# Altium schematic symbol library PROC114E3_SCH_Library.SchLib: 130 symbols
Pins are listed as number, name and electrical type; pins without a type are passive.

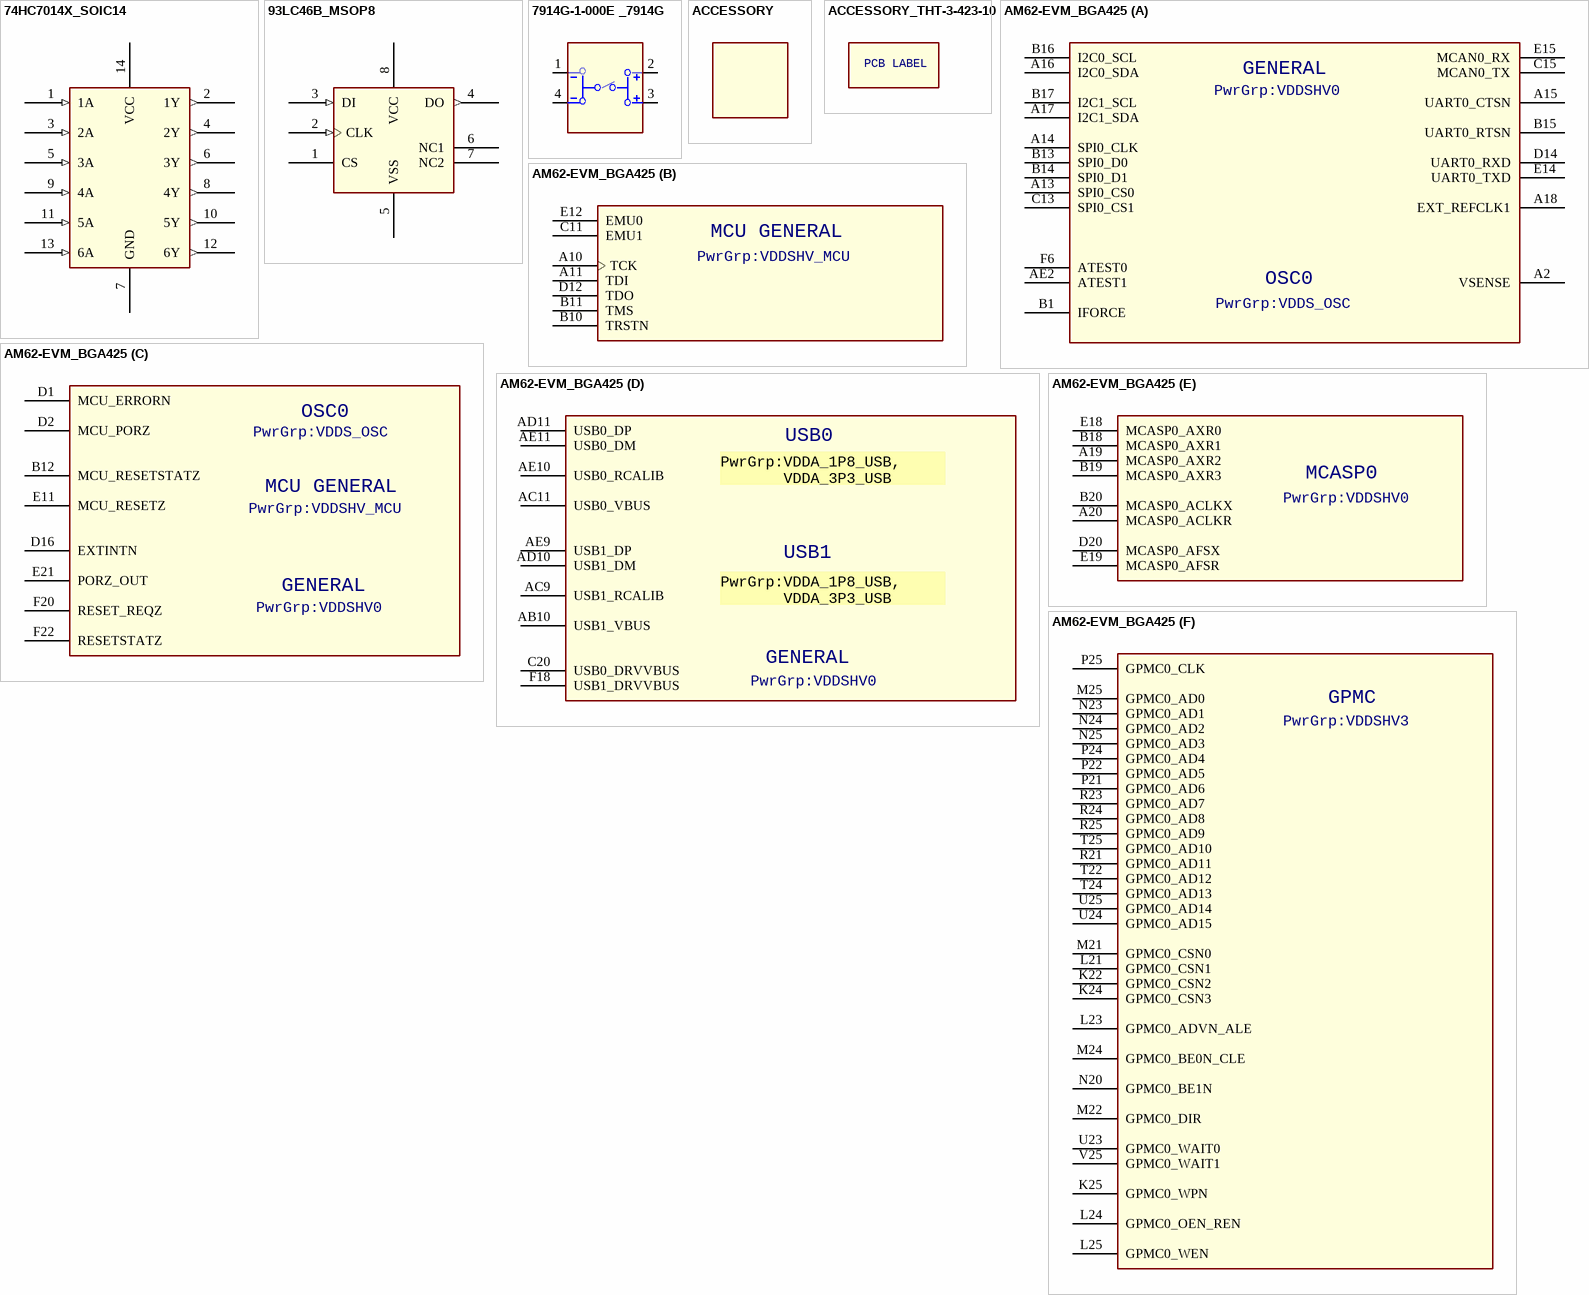
[diagram p0: symbols 74HC7014X_SOIC14 to AM62-EVM_BGA425]

## 74HC7014X_SOIC14
designator U?
pins: 1 1A (in), 2 1Y (out), 3 2A (in), 4 2Y (out), 5 3A (in), 6 3Y (out), 7 GND (power), 8 4Y (out), 9 4A (in), 10 5Y (out), 11 5A (in), 12 6Y (out), 13 6A (in), 14 VCC (power)

## 93LC46B_MSOP8
designator U?
pins: 1 CS, 2 CLK (in), 3 DI (in), 4 DO (out), 5 VSS (power), 6 NC1, 7 NC2, 8 VCC (power)

## 7914G-1-000E _7914G
designator SW?
pins: 1, 2, 3, 4

## ACCESSORY
designator ACC?

## ACCESSORY_THT-3-423-10
designator LBL?
text: PCB LABEL

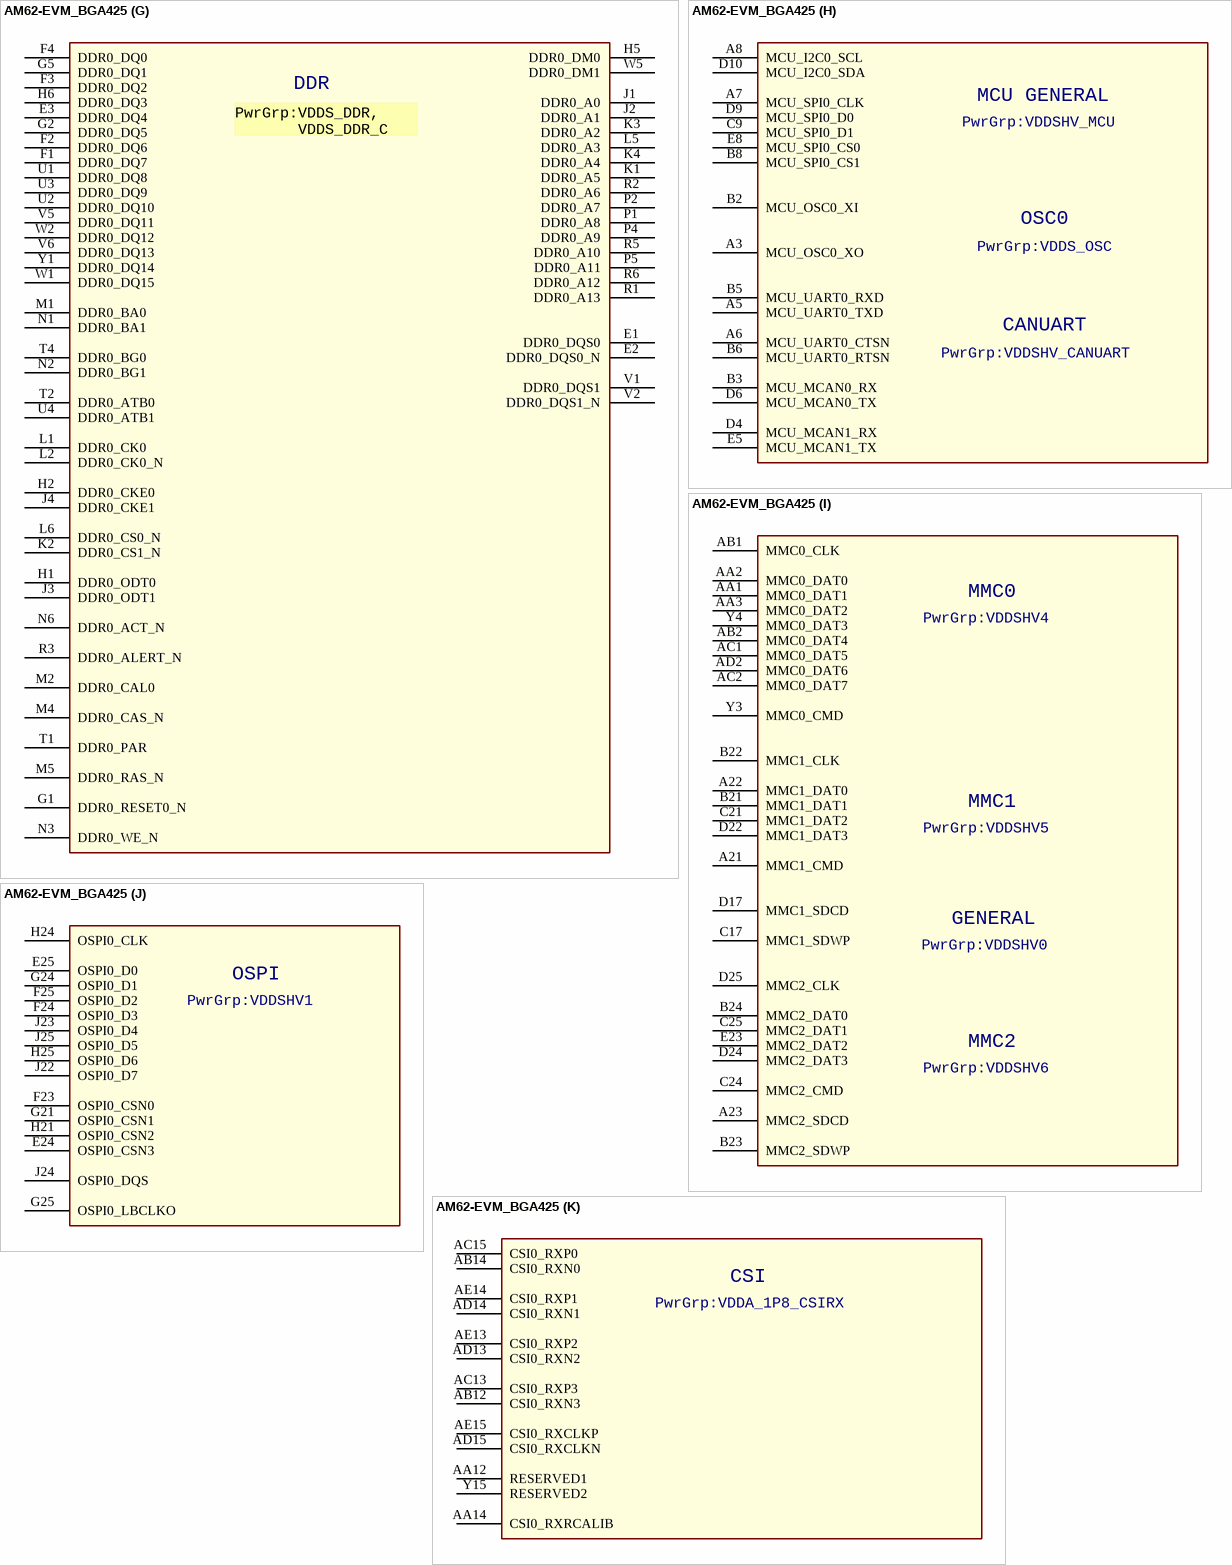
[diagram p1: symbol AM62-EVM_BGA425]

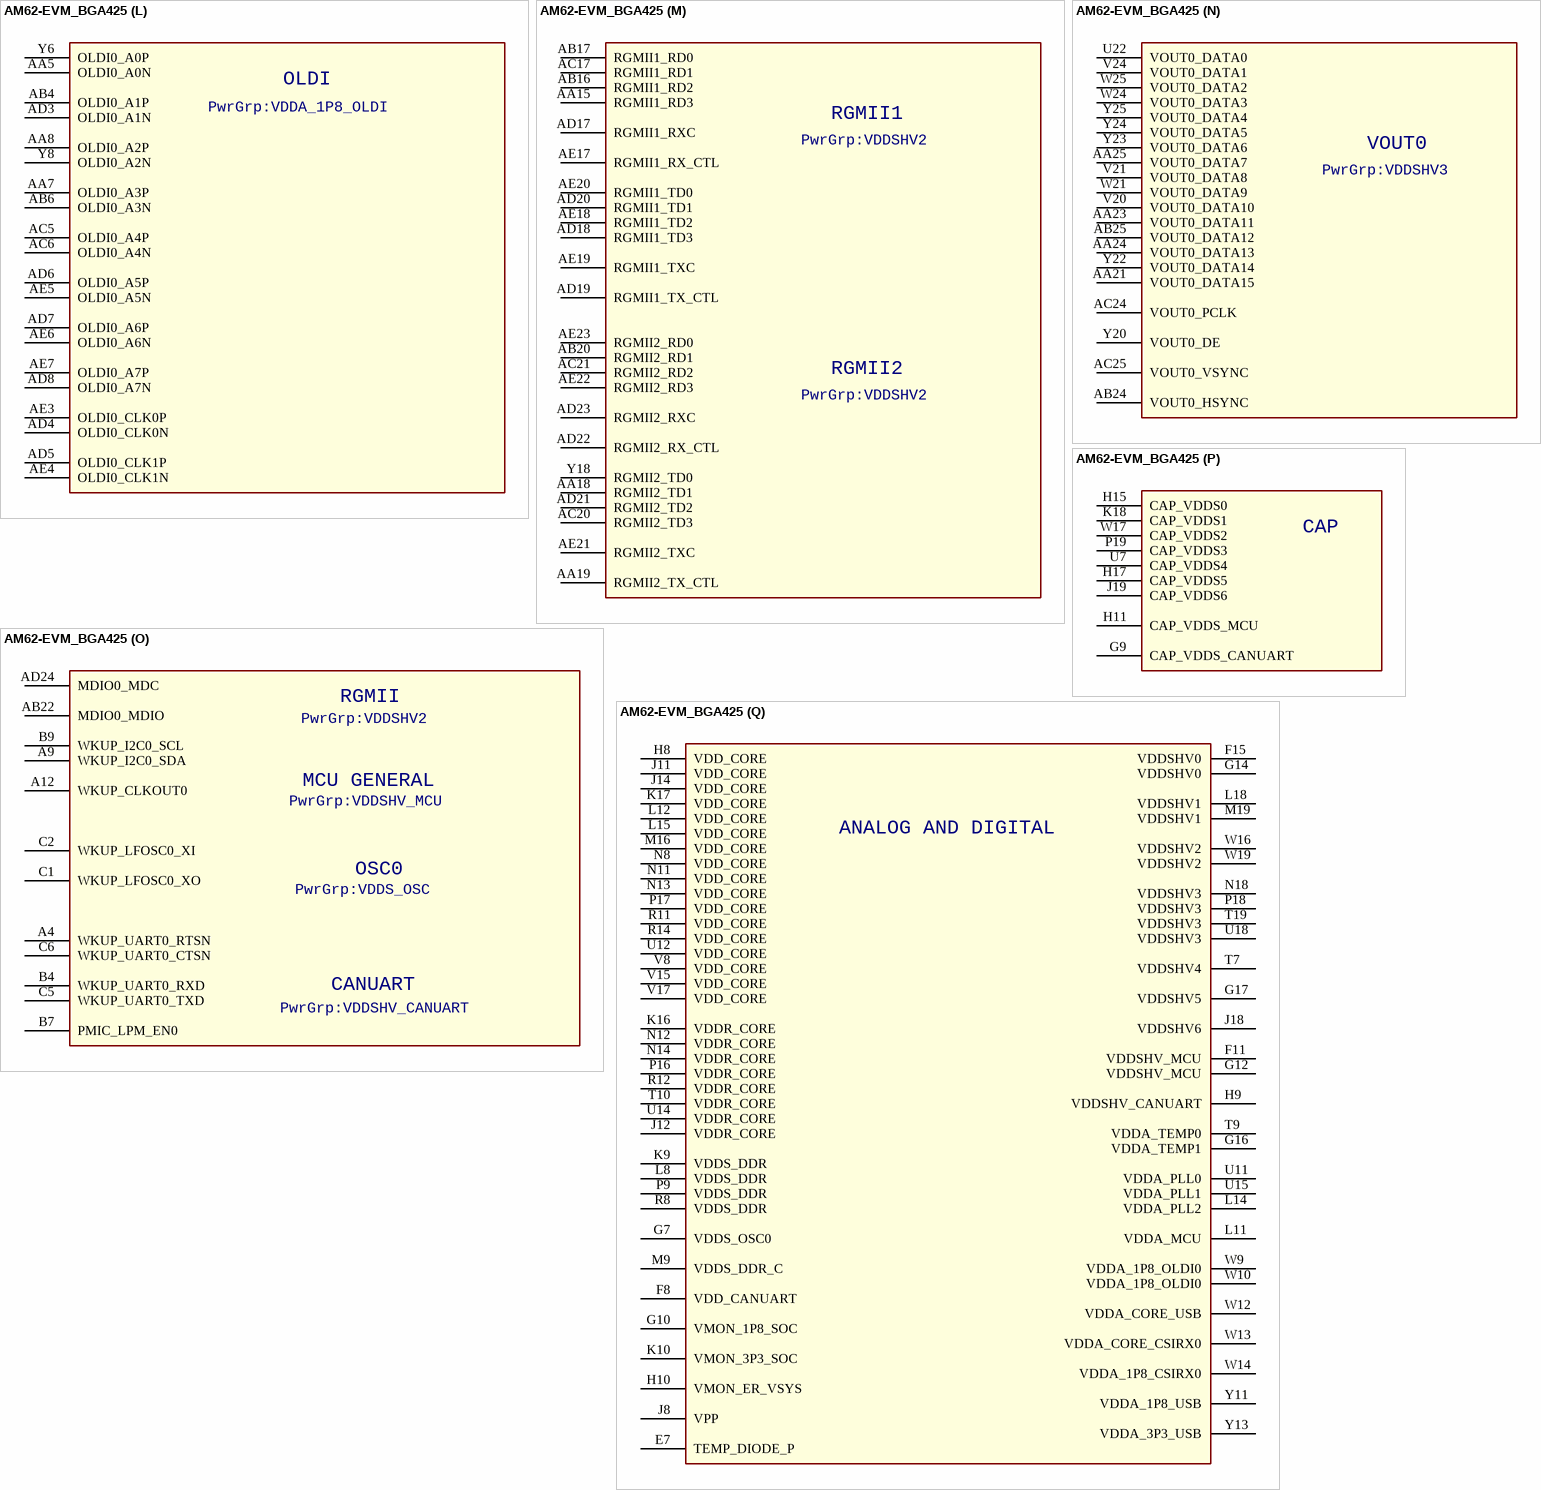
[diagram p2: symbol AM62-EVM_BGA425]

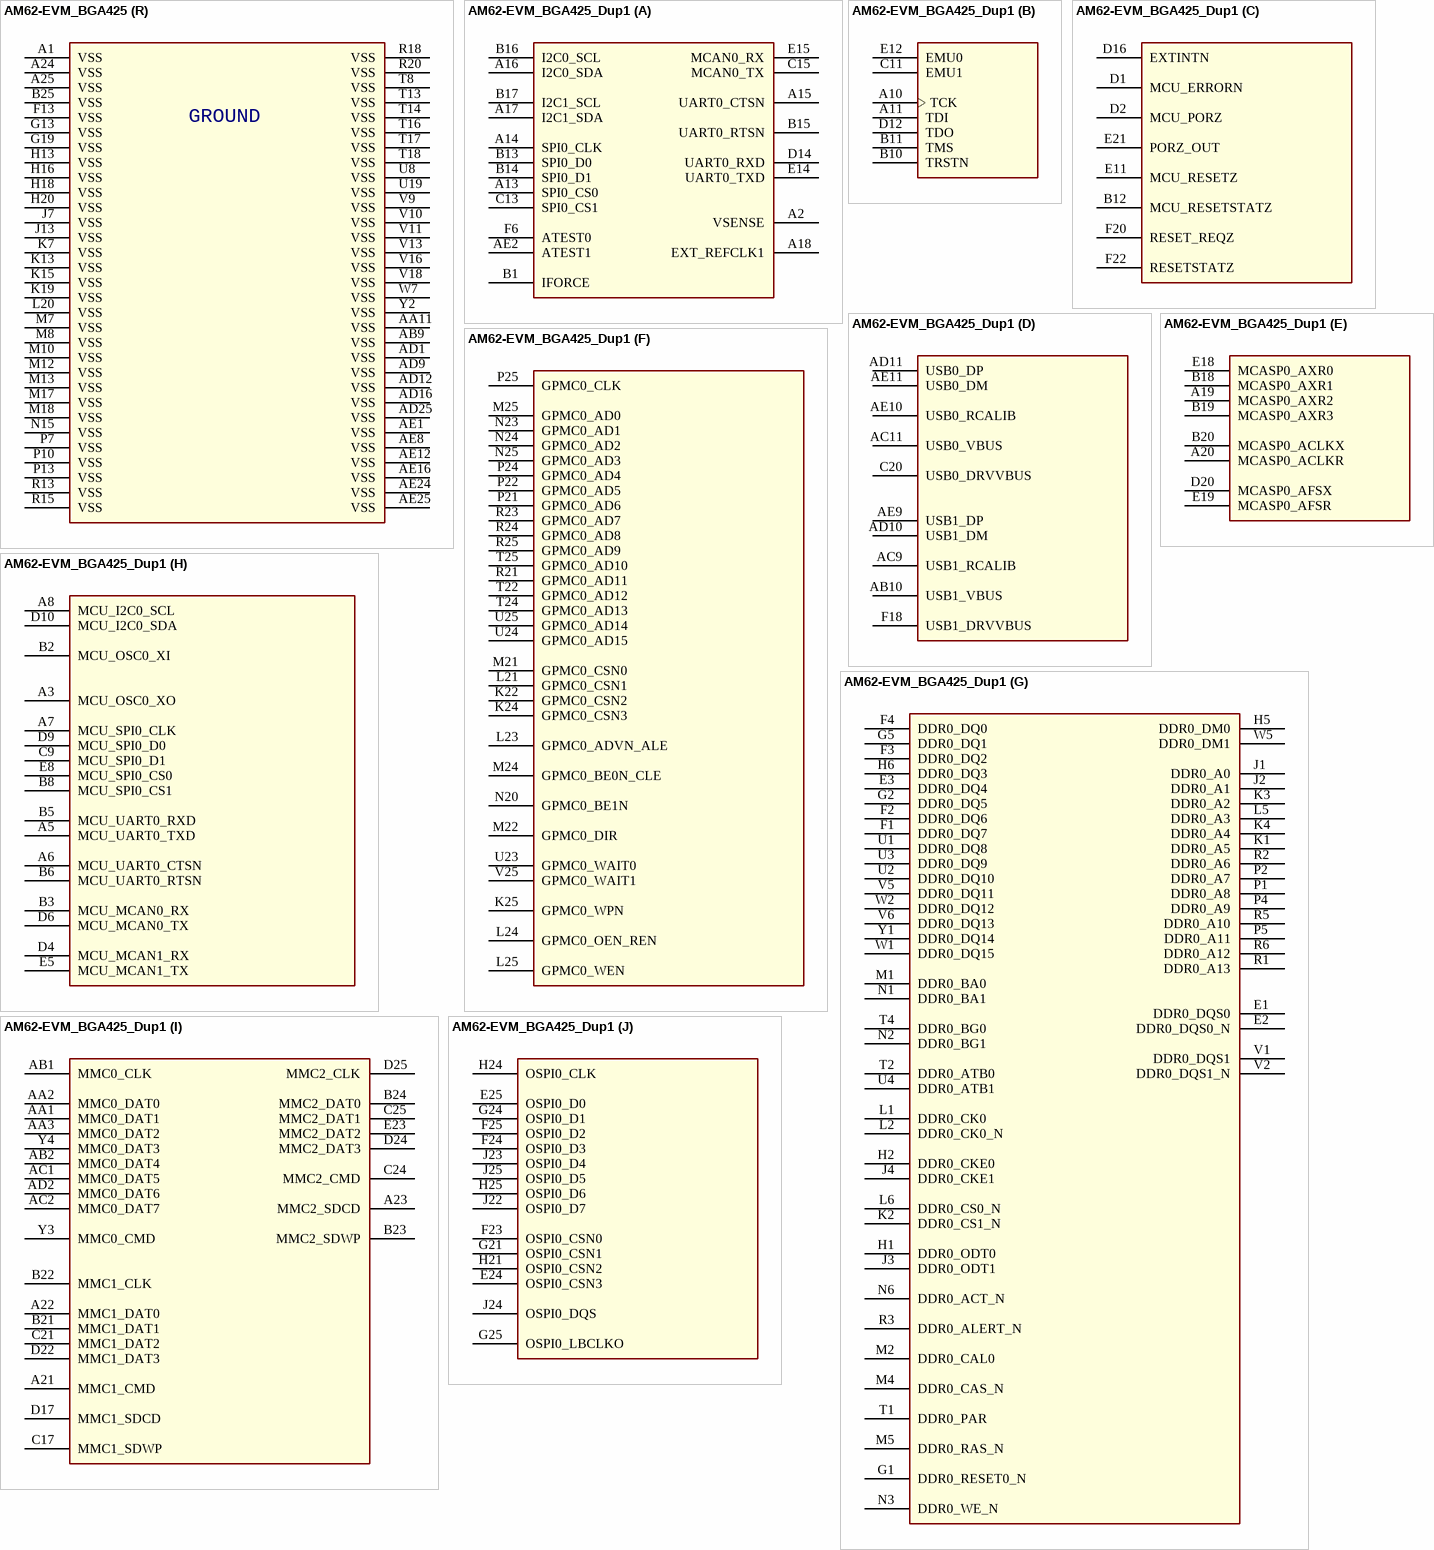
[diagram p3: symbols AM62-EVM_BGA425 to AM62-EVM_BGA425_Dup1]

## AM62-EVM_BGA425
designator U?
part A pins: A2 VSENSE, A13 SPI0_CS0, A14 SPI0_CLK, A15 UART0_CTSN, A16 I2C0_SDA, A17 I2C1_SDA, A18 EXT_REFCLK1, AE2 ATEST1, B1 IFORCE, B13 SPI0_D0, B14 SPI0_D1, B15 UART0_RTSN, B16 I2C0_SCL, B17 I2C1_SCL, C13 SPI0_CS1, C15 MCAN0_TX, D14 UART0_RXD, E14 UART0_TXD, E15 MCAN0_RX, F6 ATEST0
part B pins: A10 TCK, A11 TDI, B10 TRSTN, B11 TMS, C11 EMU1, D12 TDO, E12 EMU0
part C pins: B12 MCU_RESETSTATZ, D1 MCU_ERRORN, D2 MCU_PORZ, D16 EXTINTN, E11 MCU_RESETZ, E21 PORZ_OUT, F20 RESET_REQZ, F22 RESETSTATZ
part D pins: AB10 USB1_VBUS, AC9 USB1_RCALIB, AC11 USB0_VBUS, AD10 USB1_DM, AD11 USB0_DP, AE9 USB1_DP, AE10 USB0_RCALIB, AE11 USB0_DM, C20 USB0_DRVVBUS, F18 USB1_DRVVBUS
part E pins: A19 MCASP0_AXR2, A20 MCASP0_ACLKR, B18 MCASP0_AXR1, B19 MCASP0_AXR3, B20 MCASP0_ACLKX, D20 MCASP0_AFSX, E18 MCASP0_AXR0, E19 MCASP0_AFSR
part F pins: K22 GPMC0_CSN2, K24 GPMC0_CSN3, K25 GPMC0_WPN, L21 GPMC0_CSN1, L23 GPMC0_ADVN_ALE, L24 GPMC0_OEN_REN, L25 GPMC0_WEN, M21 GPMC0_CSN0, M22 GPMC0_DIR, M24 GPMC0_BE0N_CLE, M25 GPMC0_AD0, N20 GPMC0_BE1N, N23 GPMC0_AD1, N24 GPMC0_AD2, N25 GPMC0_AD3, P21 GPMC0_AD6, P22 GPMC0_AD5, P24 GPMC0_AD4, P25 GPMC0_CLK, R21 GPMC0_AD11, R23 GPMC0_AD7, R24 GPMC0_AD8, R25 GPMC0_AD9, T22 GPMC0_AD12, T24 GPMC0_AD13, T25 GPMC0_AD10, U23 GPMC0_WAIT0, U24 GPMC0_AD15, U25 GPMC0_AD14, V25 GPMC0_WAIT1
part G pins: E1 DDR0_DQS0, E2 DDR0_DQS0_N, E3 DDR0_DQ4, F1 DDR0_DQ7, F2 DDR0_DQ6, F3 DDR0_DQ2, F4 DDR0_DQ0, G1 DDR0_RESET0_N, G2 DDR0_DQ5, G5 DDR0_DQ1, H1 DDR0_ODT0, H2 DDR0_CKE0, H5 DDR0_DM0, H6 DDR0_DQ3, J1 DDR0_A0, J2 DDR0_A1, J3 DDR0_ODT1, J4 DDR0_CKE1, K1 DDR0_A5, K2 DDR0_CS1_N, K3 DDR0_A2, K4 DDR0_A4, L1 DDR0_CK0, L2 DDR0_CK0_N, L5 DDR0_A3, L6 DDR0_CS0_N, M1 DDR0_BA0, M2 DDR0_CAL0, M4 DDR0_CAS_N, M5 DDR0_RAS_N, N1 DDR0_BA1, N2 DDR0_BG1, N3 DDR0_WE_N, N6 DDR0_ACT_N, P1 DDR0_A8, P2 DDR0_A7, P4 DDR0_A9, P5 DDR0_A11, R1 DDR0_A13, R2 DDR0_A6, R3 DDR0_ALERT_N, R5 DDR0_A10, R6 DDR0_A12, T1 DDR0_PAR, T2 DDR0_ATB0, T4 DDR0_BG0, U1 DDR0_DQ8, U2 DDR0_DQ10, U3 DDR0_DQ9, U4 DDR0_ATB1, V1 DDR0_DQS1, V2 DDR0_DQS1_N, V5 DDR0_DQ11, V6 DDR0_DQ13, W1 DDR0_DQ15, W2 DDR0_DQ12, W5 DDR0_DM1, Y1 DDR0_DQ14
part H pins: A3 MCU_OSC0_XO, A5 MCU_UART0_TXD, A6 MCU_UART0_CTSN, A7 MCU_SPI0_CLK, A8 MCU_I2C0_SCL, B2 MCU_OSC0_XI, B3 MCU_MCAN0_RX, B5 MCU_UART0_RXD, B6 MCU_UART0_RTSN, B8 MCU_SPI0_CS1, C9 MCU_SPI0_D1, D4 MCU_MCAN1_RX, D6 MCU_MCAN0_TX, D9 MCU_SPI0_D0, D10 MCU_I2C0_SDA, E5 MCU_MCAN1_TX, E8 MCU_SPI0_CS0
part I pins: A21 MMC1_CMD, A22 MMC1_DAT0, A23 MMC2_SDCD, AA1 MMC0_DAT1, AA2 MMC0_DAT0, AA3 MMC0_DAT2, AB1 MMC0_CLK, AB2 MMC0_DAT4, AC1 MMC0_DAT5, AC2 MMC0_DAT7, AD2 MMC0_DAT6, B21 MMC1_DAT1, B22 MMC1_CLK, B23 MMC2_SDWP, B24 MMC2_DAT0, C17 MMC1_SDWP, C21 MMC1_DAT2, C24 MMC2_CMD, C25 MMC2_DAT1, D17 MMC1_SDCD, D22 MMC1_DAT3, D24 MMC2_DAT3, D25 MMC2_CLK, E23 MMC2_DAT2, Y3 MMC0_CMD, Y4 MMC0_DAT3
part J pins: E24 OSPI0_CSN3, E25 OSPI0_D0, F23 OSPI0_CSN0, F24 OSPI0_D3, F25 OSPI0_D2, G21 OSPI0_CSN1, G24 OSPI0_D1, G25 OSPI0_LBCLKO, H21 OSPI0_CSN2, H24 OSPI0_CLK, H25 OSPI0_D6, J22 OSPI0_D7, J23 OSPI0_D4, J24 OSPI0_DQS, J25 OSPI0_D5
part K pins: AA12 RESERVED1, AA14 CSI0_RXRCALIB, AB12 CSI0_RXN3, AB14 CSI0_RXN0, AC13 CSI0_RXP3, AC15 CSI0_RXP0, AD13 CSI0_RXN2, AD14 CSI0_RXN1, AD15 CSI0_RXCLKN, AE13 CSI0_RXP2, AE14 CSI0_RXP1, AE15 CSI0_RXCLKP, Y15 RESERVED2
part L pins: AA5 OLDI0_A0N, AA7 OLDI0_A3P, AA8 OLDI0_A2P, AB4 OLDI0_A1P, AB6 OLDI0_A3N, AC5 OLDI0_A4P, AC6 OLDI0_A4N, AD3 OLDI0_A1N, AD4 OLDI0_CLK0N, AD5 OLDI0_CLK1P, AD6 OLDI0_A5P, AD7 OLDI0_A6P, AD8 OLDI0_A7N, AE3 OLDI0_CLK0P, AE4 OLDI0_CLK1N, AE5 OLDI0_A5N, AE6 OLDI0_A6N, AE7 OLDI0_A7P, Y6 OLDI0_A0P, Y8 OLDI0_A2N
part M pins: AA15 RGMII1_RD3, AA18 RGMII2_TD1, AA19 RGMII2_TX_CTL, AB16 RGMII1_RD2, AB17 RGMII1_RD0, AB20 RGMII2_RD1, AC17 RGMII1_RD1, AC20 RGMII2_TD3, AC21 RGMII2_RD2, AD17 RGMII1_RXC, AD18 RGMII1_TD3, AD19 RGMII1_TX_CTL, AD20 RGMII1_TD1, AD21 RGMII2_TD2, AD22 RGMII2_RX_CTL, AD23 RGMII2_RXC, AE17 RGMII1_RX_CTL, AE18 RGMII1_TD2, AE19 RGMII1_TXC, AE20 RGMII1_TD0, AE21 RGMII2_TXC, AE22 RGMII2_RD3, AE23 RGMII2_RD0, Y18 RGMII2_TD0
part N pins: AA21 VOUT0_DATA15, AA23 VOUT0_DATA11, AA24 VOUT0_DATA13, AA25 VOUT0_DATA7, AB24 VOUT0_HSYNC, AB25 VOUT0_DATA12, AC24 VOUT0_PCLK, AC25 VOUT0_VSYNC, U22 VOUT0_DATA0, V20 VOUT0_DATA10, V21 VOUT0_DATA8, V24 VOUT0_DATA1, W21 VOUT0_DATA9, W24 VOUT0_DATA3, W25 VOUT0_DATA2, Y20 VOUT0_DE, Y22 VOUT0_DATA14, Y23 VOUT0_DATA6, Y24 VOUT0_DATA5, Y25 VOUT0_DATA4
part O pins: A4 WKUP_UART0_RTSN, A9 WKUP_I2C0_SDA, A12 WKUP_CLKOUT0, AB22 MDIO0_MDIO, AD24 MDIO0_MDC, B4 WKUP_UART0_RXD, B7 PMIC_LPM_EN0, B9 WKUP_I2C0_SCL, C1 WKUP_LFOSC0_XO, C2 WKUP_LFOSC0_XI, C5 WKUP_UART0_TXD, C6 WKUP_UART0_CTSN
part P pins: G9 CAP_VDDS_CANUART (power), H11 CAP_VDDS_MCU (power), H15 CAP_VDDS0 (power), H17 CAP_VDDS5 (power), J19 CAP_VDDS6 (power), K18 CAP_VDDS1 (power), P19 CAP_VDDS3 (power), U7 CAP_VDDS4 (power), W17 CAP_VDDS2 (power)
part Q pins: E7 TEMP_DIODE_P (power), F8 VDD_CANUART (power), F11 VDDSHV_MCU (power), F15 VDDSHV0 (power), G7 VDDS_OSC0 (power), G10 VMON_1P8_SOC (power), G12 VDDSHV_MCU (power), G14 VDDSHV0 (power), G16 VDDA_TEMP1 (power), G17 VDDSHV5 (power), H8 VDD_CORE (power), H9 VDDSHV_CANUART (power), H10 VMON_ER_VSYS (power), J8 VPP (power), J11 VDD_CORE (power), J12 VDDR_CORE (power), J14 VDD_CORE (power), J18 VDDSHV6 (power), K9 VDDS_DDR (power), K10 VMON_3P3_SOC (power), K16 VDDR_CORE (power), K17 VDD_CORE (power), L8 VDDS_DDR (power), L11 VDDA_MCU (power), L12 VDD_CORE (power), L14 VDDA_PLL2 (power), L15 VDD_CORE (power), L18 VDDSHV1 (power), M9 VDDS_DDR_C (power), M16 VDD_CORE (power), M19 VDDSHV1 (power), N8 VDD_CORE (power), N11 VDD_CORE (power), N12 VDDR_CORE (power), N13 VDD_CORE (power), N14 VDDR_CORE (power), N18 VDDSHV3 (power), P9 VDDS_DDR (power), P16 VDDR_CORE (power), P17 VDD_CORE (power), P18 VDDSHV3 (power), R8 VDDS_DDR (power), R11 VDD_CORE (power), R12 VDDR_CORE (power), R14 VDD_CORE (power), T7 VDDSHV4 (power), T9 VDDA_TEMP0 (power), T10 VDDR_CORE (power), T19 VDDSHV3 (power), U11 VDDA_PLL0 (power), U12 VDD_CORE (power), U14 VDDR_CORE (power), U15 VDDA_PLL1 (power), U18 VDDSHV3 (power), V8 VDD_CORE (power), V15 VDD_CORE (power), V17 VDD_CORE (power), W9 VDDA_1P8_OLDI0 (power), W10 VDDA_1P8_OLDI0 (power), W12 VDDA_CORE_USB (power), W13 VDDA_CORE_CSIRX0 (power), W14 VDDA_1P8_CSIRX0 (power), W16 VDDSHV2 (power), W19 VDDSHV2 (power), Y11 VDDA_1P8_USB (power), Y13 VDDA_3P3_USB (power)
part R pins: A1 VSS (power), A24 VSS (power), A25 VSS (power), AA11 VSS (power), AB9 VSS (power), AD1 VSS (power), AD9 VSS (power), AD12 VSS (power), AD16 VSS (power), AD25 VSS (power), AE1 VSS (power), AE8 VSS (power), AE12 VSS (power), AE16 VSS (power), AE24 VSS (power), AE25 VSS (power), B25 VSS (power), F13 VSS (power), G13 VSS (power), G19 VSS (power), H13 VSS (power), H16 VSS (power), H18 VSS (power), H20 VSS (power), J7 VSS (power), J13 VSS (power), K7 VSS (power), K13 VSS (power), K15 VSS (power), K19 VSS (power), L20 VSS (power), M7 VSS (power), M8 VSS (power), M10 VSS (power), M12 VSS (power), M13 VSS (power), M17 VSS (power), M18 VSS (power), N15 VSS (power), P7 VSS (power), P10 VSS (power), P13 VSS (power), R13 VSS (power), R15 VSS (power), R18 VSS (power), R20 VSS (power), T8 VSS (power), T13 VSS (power), T14 VSS (power), T16 VSS (power), T17 VSS (power), T18 VSS (power), U8 VSS (power), U19 VSS (power), V9 VSS (power), V10 VSS (power), V11 VSS (power), V13 VSS (power), V16 VSS (power), V18 VSS (power), W7 VSS (power), Y2 VSS (power)
part A text: GENERAL; PwrGrp:VDDSHV0; OSC0; PwrGrp:VDDS_OSC
part B text: MCU GENERAL; PwrGrp:VDDSHV_MCU
part C text: OSC0; PwrGrp:VDDS_OSC; MCU GENERAL; PwrGrp:VDDSHV_MCU; GENERAL; PwrGrp:VDDSHV0
part D text: USB0; PwrGrp:VDDA_1P8_USB, / VDDA_3P3_USB; USB1; GENERAL; PwrGrp:VDDSHV0
part E text: MCASP0; PwrGrp:VDDSHV0
part F text: GPMC; PwrGrp:VDDSHV3
part G text: DDR; PwrGrp:VDDS_DDR, / VDDS_DDR_C
part H text: MCU GENERAL; PwrGrp:VDDSHV_MCU; OSC0; PwrGrp:VDDS_OSC; CANUART; PwrGrp:VDDSHV_CANUART
part I text: MMC0; PwrGrp:VDDSHV4; MMC1; PwrGrp:VDDSHV5; GENERAL; PwrGrp:VDDSHV0; MMC2; PwrGrp:VDDSHV6
part J text: OSPI; PwrGrp:VDDSHV1
part K text: CSI; PwrGrp:VDDA_1P8_CSIRX
part L text: OLDI; PwrGrp:VDDA_1P8_OLDI
part M text: RGMII1; PwrGrp:VDDSHV2; RGMII2
part N text: VOUT0; PwrGrp:VDDSHV3
part O text: RGMII; PwrGrp:VDDSHV2; MCU GENERAL; PwrGrp:VDDSHV_MCU; OSC0; PwrGrp:VDDS_OSC; CANUART; PwrGrp:VDDSHV_CANUART
part P text: CAP
part Q text: ANALOG AND DIGITAL
part R text: GROUND

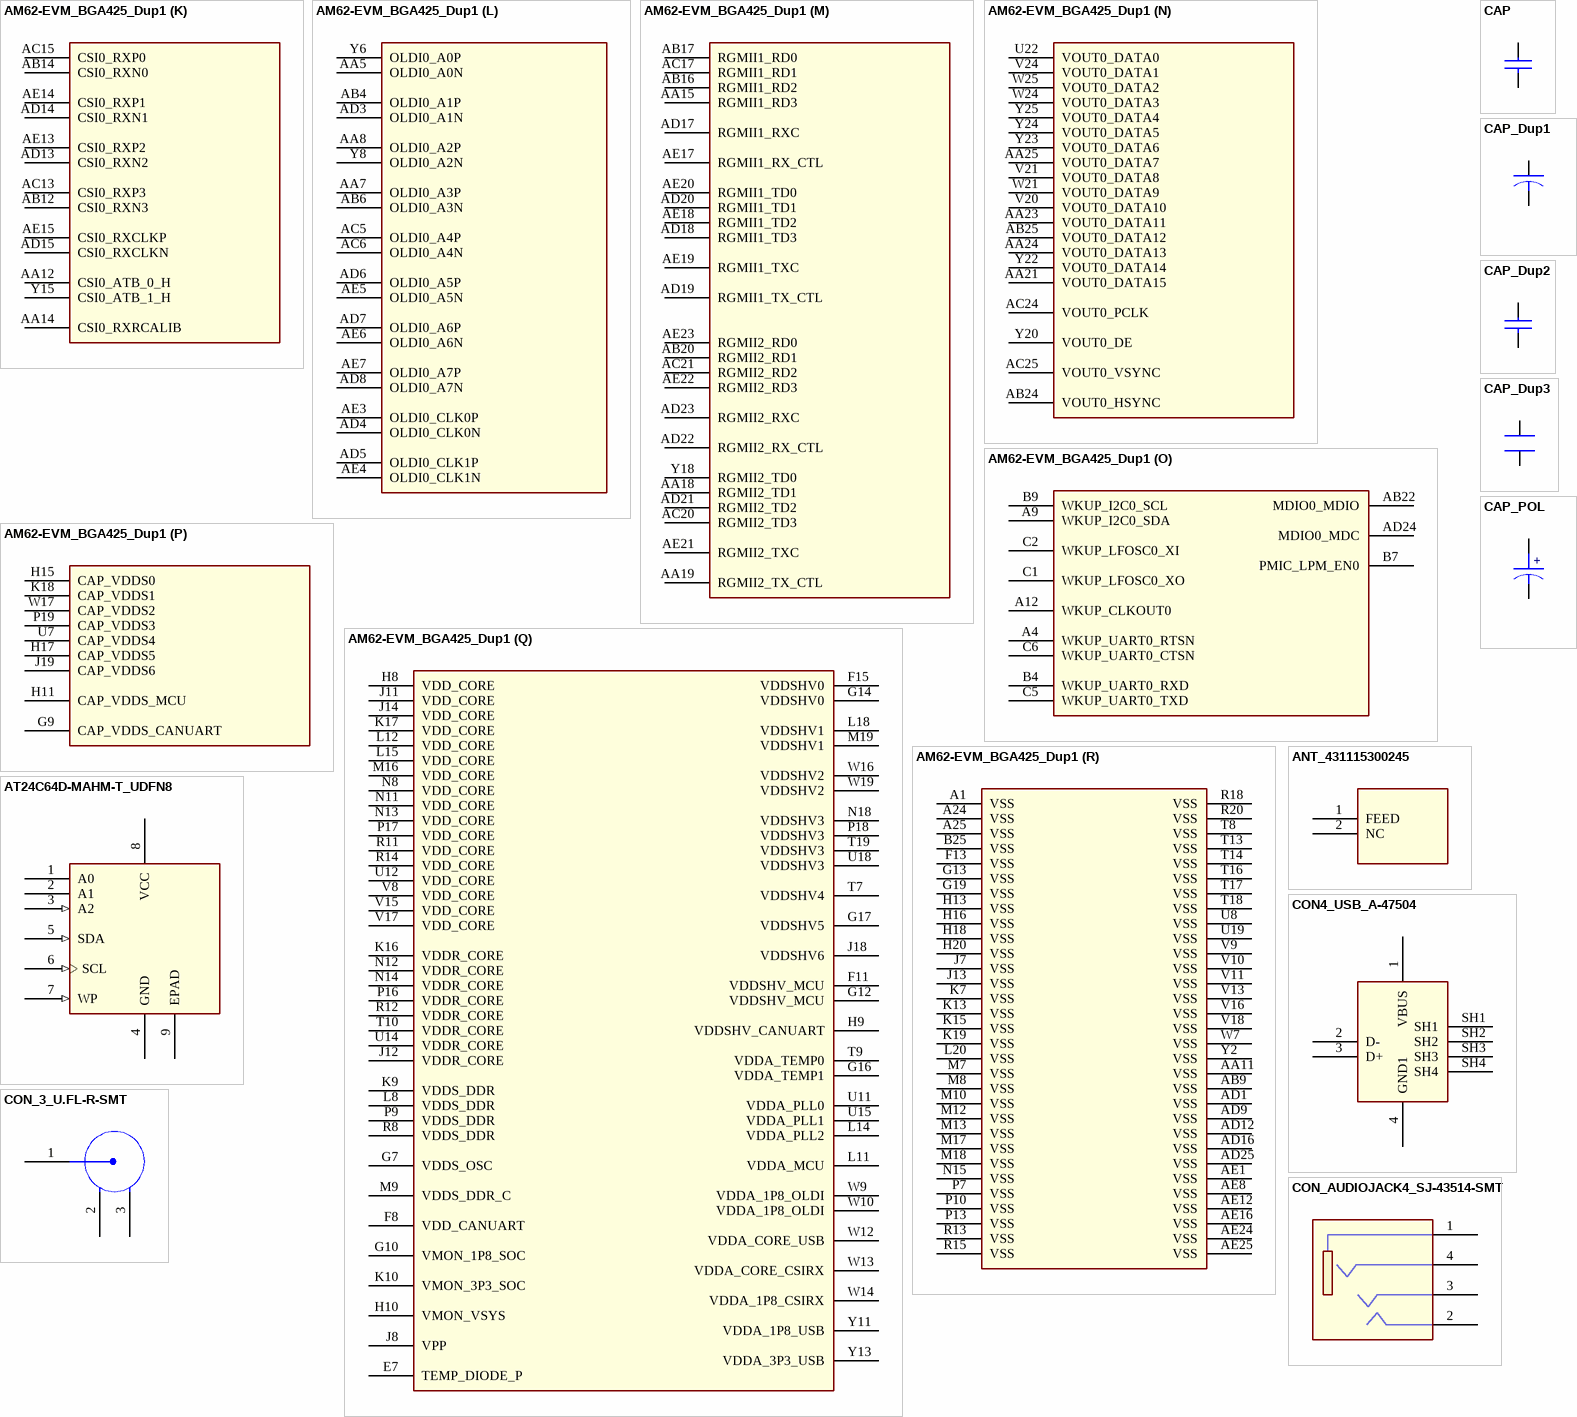
[diagram p4: symbols AM62-EVM_BGA425_Dup1 to CON_AUDIOJACK4_SJ-43514-SMT]

## AM62-EVM_BGA425_Dup1
designator U?
part A pins: A2 VSENSE, A13 SPI0_CS0, A14 SPI0_CLK, A15 UART0_CTSN, A16 I2C0_SDA, A17 I2C1_SDA, A18 EXT_REFCLK1, AE2 ATEST1, B1 IFORCE, B13 SPI0_D0, B14 SPI0_D1, B15 UART0_RTSN, B16 I2C0_SCL, B17 I2C1_SCL, C13 SPI0_CS1, C15 MCAN0_TX, D14 UART0_RXD, E14 UART0_TXD, E15 MCAN0_RX, F6 ATEST0
part B pins: A10 TCK, A11 TDI, B10 TRSTN, B11 TMS, C11 EMU1, D12 TDO, E12 EMU0
part C pins: B12 MCU_RESETSTATZ, D1 MCU_ERRORN, D2 MCU_PORZ, D16 EXTINTN, E11 MCU_RESETZ, E21 PORZ_OUT, F20 RESET_REQZ, F22 RESETSTATZ
part D pins: AB10 USB1_VBUS, AC9 USB1_RCALIB, AC11 USB0_VBUS, AD10 USB1_DM, AD11 USB0_DP, AE9 USB1_DP, AE10 USB0_RCALIB, AE11 USB0_DM, C20 USB0_DRVVBUS, F18 USB1_DRVVBUS
part E pins: A19 MCASP0_AXR2, A20 MCASP0_ACLKR, B18 MCASP0_AXR1, B19 MCASP0_AXR3, B20 MCASP0_ACLKX, D20 MCASP0_AFSX, E18 MCASP0_AXR0, E19 MCASP0_AFSR
part F pins: K22 GPMC0_CSN2, K24 GPMC0_CSN3, K25 GPMC0_WPN, L21 GPMC0_CSN1, L23 GPMC0_ADVN_ALE, L24 GPMC0_OEN_REN, L25 GPMC0_WEN, M21 GPMC0_CSN0, M22 GPMC0_DIR, M24 GPMC0_BE0N_CLE, M25 GPMC0_AD0, N20 GPMC0_BE1N, N23 GPMC0_AD1, N24 GPMC0_AD2, N25 GPMC0_AD3, P21 GPMC0_AD6, P22 GPMC0_AD5, P24 GPMC0_AD4, P25 GPMC0_CLK, R21 GPMC0_AD11, R23 GPMC0_AD7, R24 GPMC0_AD8, R25 GPMC0_AD9, T22 GPMC0_AD12, T24 GPMC0_AD13, T25 GPMC0_AD10, U23 GPMC0_WAIT0, U24 GPMC0_AD15, U25 GPMC0_AD14, V25 GPMC0_WAIT1
part G pins: E1 DDR0_DQS0, E2 DDR0_DQS0_N, E3 DDR0_DQ4, F1 DDR0_DQ7, F2 DDR0_DQ6, F3 DDR0_DQ2, F4 DDR0_DQ0, G1 DDR0_RESET0_N, G2 DDR0_DQ5, G5 DDR0_DQ1, H1 DDR0_ODT0, H2 DDR0_CKE0, H5 DDR0_DM0, H6 DDR0_DQ3, J1 DDR0_A0, J2 DDR0_A1, J3 DDR0_ODT1, J4 DDR0_CKE1, K1 DDR0_A5, K2 DDR0_CS1_N, K3 DDR0_A2, K4 DDR0_A4, L1 DDR0_CK0, L2 DDR0_CK0_N, L5 DDR0_A3, L6 DDR0_CS0_N, M1 DDR0_BA0, M2 DDR0_CAL0, M4 DDR0_CAS_N, M5 DDR0_RAS_N, N1 DDR0_BA1, N2 DDR0_BG1, N3 DDR0_WE_N, N6 DDR0_ACT_N, P1 DDR0_A8, P2 DDR0_A7, P4 DDR0_A9, P5 DDR0_A11, R1 DDR0_A13, R2 DDR0_A6, R3 DDR0_ALERT_N, R5 DDR0_A10, R6 DDR0_A12, T1 DDR0_PAR, T2 DDR0_ATB0, T4 DDR0_BG0, U1 DDR0_DQ8, U2 DDR0_DQ10, U3 DDR0_DQ9, U4 DDR0_ATB1, V1 DDR0_DQS1, V2 DDR0_DQS1_N, V5 DDR0_DQ11, V6 DDR0_DQ13, W1 DDR0_DQ15, W2 DDR0_DQ12, W5 DDR0_DM1, Y1 DDR0_DQ14
part H pins: A3 MCU_OSC0_XO, A5 MCU_UART0_TXD, A6 MCU_UART0_CTSN, A7 MCU_SPI0_CLK, A8 MCU_I2C0_SCL, B2 MCU_OSC0_XI, B3 MCU_MCAN0_RX, B5 MCU_UART0_RXD, B6 MCU_UART0_RTSN, B8 MCU_SPI0_CS1, C9 MCU_SPI0_D1, D4 MCU_MCAN1_RX, D6 MCU_MCAN0_TX, D9 MCU_SPI0_D0, D10 MCU_I2C0_SDA, E5 MCU_MCAN1_TX, E8 MCU_SPI0_CS0
part I pins: A21 MMC1_CMD, A22 MMC1_DAT0, A23 MMC2_SDCD, AA1 MMC0_DAT1, AA2 MMC0_DAT0, AA3 MMC0_DAT2, AB1 MMC0_CLK, AB2 MMC0_DAT4, AC1 MMC0_DAT5, AC2 MMC0_DAT7, AD2 MMC0_DAT6, B21 MMC1_DAT1, B22 MMC1_CLK, B23 MMC2_SDWP, B24 MMC2_DAT0, C17 MMC1_SDWP, C21 MMC1_DAT2, C24 MMC2_CMD, C25 MMC2_DAT1, D17 MMC1_SDCD, D22 MMC1_DAT3, D24 MMC2_DAT3, D25 MMC2_CLK, E23 MMC2_DAT2, Y3 MMC0_CMD, Y4 MMC0_DAT3
part J pins: E24 OSPI0_CSN3, E25 OSPI0_D0, F23 OSPI0_CSN0, F24 OSPI0_D3, F25 OSPI0_D2, G21 OSPI0_CSN1, G24 OSPI0_D1, G25 OSPI0_LBCLKO, H21 OSPI0_CSN2, H24 OSPI0_CLK, H25 OSPI0_D6, J22 OSPI0_D7, J23 OSPI0_D4, J24 OSPI0_DQS, J25 OSPI0_D5
part K pins: AA12 CSI0_ATB_0_H, AA14 CSI0_RXRCALIB, AB12 CSI0_RXN3, AB14 CSI0_RXN0, AC13 CSI0_RXP3, AC15 CSI0_RXP0, AD13 CSI0_RXN2, AD14 CSI0_RXN1, AD15 CSI0_RXCLKN, AE13 CSI0_RXP2, AE14 CSI0_RXP1, AE15 CSI0_RXCLKP, Y15 CSI0_ATB_1_H
part L pins: AA5 OLDI0_A0N, AA7 OLDI0_A3P, AA8 OLDI0_A2P, AB4 OLDI0_A1P, AB6 OLDI0_A3N, AC5 OLDI0_A4P, AC6 OLDI0_A4N, AD3 OLDI0_A1N, AD4 OLDI0_CLK0N, AD5 OLDI0_CLK1P, AD6 OLDI0_A5P, AD7 OLDI0_A6P, AD8 OLDI0_A7N, AE3 OLDI0_CLK0P, AE4 OLDI0_CLK1N, AE5 OLDI0_A5N, AE6 OLDI0_A6N, AE7 OLDI0_A7P, Y6 OLDI0_A0P, Y8 OLDI0_A2N
part M pins: AA15 RGMII1_RD3, AA18 RGMII2_TD1, AA19 RGMII2_TX_CTL, AB16 RGMII1_RD2, AB17 RGMII1_RD0, AB20 RGMII2_RD1, AC17 RGMII1_RD1, AC20 RGMII2_TD3, AC21 RGMII2_RD2, AD17 RGMII1_RXC, AD18 RGMII1_TD3, AD19 RGMII1_TX_CTL, AD20 RGMII1_TD1, AD21 RGMII2_TD2, AD22 RGMII2_RX_CTL, AD23 RGMII2_RXC, AE17 RGMII1_RX_CTL, AE18 RGMII1_TD2, AE19 RGMII1_TXC, AE20 RGMII1_TD0, AE21 RGMII2_TXC, AE22 RGMII2_RD3, AE23 RGMII2_RD0, Y18 RGMII2_TD0
part N pins: AA21 VOUT0_DATA15, AA23 VOUT0_DATA11, AA24 VOUT0_DATA13, AA25 VOUT0_DATA7, AB24 VOUT0_HSYNC, AB25 VOUT0_DATA12, AC24 VOUT0_PCLK, AC25 VOUT0_VSYNC, U22 VOUT0_DATA0, V20 VOUT0_DATA10, V21 VOUT0_DATA8, V24 VOUT0_DATA1, W21 VOUT0_DATA9, W24 VOUT0_DATA3, W25 VOUT0_DATA2, Y20 VOUT0_DE, Y22 VOUT0_DATA14, Y23 VOUT0_DATA6, Y24 VOUT0_DATA5, Y25 VOUT0_DATA4
part O pins: A4 WKUP_UART0_RTSN, A9 WKUP_I2C0_SDA, A12 WKUP_CLKOUT0, AB22 MDIO0_MDIO, AD24 MDIO0_MDC, B4 WKUP_UART0_RXD, B7 PMIC_LPM_EN0, B9 WKUP_I2C0_SCL, C1 WKUP_LFOSC0_XO, C2 WKUP_LFOSC0_XI, C5 WKUP_UART0_TXD, C6 WKUP_UART0_CTSN
part P pins: G9 CAP_VDDS_CANUART (power), H11 CAP_VDDS_MCU (power), H15 CAP_VDDS0 (power), H17 CAP_VDDS5 (power), J19 CAP_VDDS6 (power), K18 CAP_VDDS1 (power), P19 CAP_VDDS3 (power), U7 CAP_VDDS4 (power), W17 CAP_VDDS2 (power)
part Q pins: E7 TEMP_DIODE_P (power), F8 VDD_CANUART (power), F11 VDDSHV_MCU (power), F15 VDDSHV0 (power), G7 VDDS_OSC (power), G10 VMON_1P8_SOC (power), G12 VDDSHV_MCU (power), G14 VDDSHV0 (power), G16 VDDA_TEMP1 (power), G17 VDDSHV5 (power), H8 VDD_CORE (power), H9 VDDSHV_CANUART (power), H10 VMON_VSYS (power), J8 VPP (power), J11 VDD_CORE (power), J12 VDDR_CORE (power), J14 VDD_CORE (power), J18 VDDSHV6 (power), K9 VDDS_DDR (power), K10 VMON_3P3_SOC (power), K16 VDDR_CORE (power), K17 VDD_CORE (power), L8 VDDS_DDR (power), L11 VDDA_MCU (power), L12 VDD_CORE (power), L14 VDDA_PLL2 (power), L15 VDD_CORE (power), L18 VDDSHV1 (power), M9 VDDS_DDR_C (power), M16 VDD_CORE (power), M19 VDDSHV1 (power), N8 VDD_CORE (power), N11 VDD_CORE (power), N12 VDDR_CORE (power), N13 VDD_CORE (power), N14 VDDR_CORE (power), N18 VDDSHV3 (power), P9 VDDS_DDR (power), P16 VDDR_CORE (power), P17 VDD_CORE (power), P18 VDDSHV3 (power), R8 VDDS_DDR (power), R11 VDD_CORE (power), R12 VDDR_CORE (power), R14 VDD_CORE (power), T7 VDDSHV4 (power), T9 VDDA_TEMP0 (power), T10 VDDR_CORE (power), T19 VDDSHV3 (power), U11 VDDA_PLL0 (power), U12 VDD_CORE (power), U14 VDDR_CORE (power), U15 VDDA_PLL1 (power), U18 VDDSHV3 (power), V8 VDD_CORE (power), V15 VDD_CORE (power), V17 VDD_CORE (power), W9 VDDA_1P8_OLDI (power), W10 VDDA_1P8_OLDI (power), W12 VDDA_CORE_USB (power), W13 VDDA_CORE_CSIRX (power), W14 VDDA_1P8_CSIRX (power), W16 VDDSHV2 (power), W19 VDDSHV2 (power), Y11 VDDA_1P8_USB (power), Y13 VDDA_3P3_USB (power)
part R pins: A1 VSS (power), A24 VSS (power), A25 VSS (power), AA11 VSS (power), AB9 VSS (power), AD1 VSS (power), AD9 VSS (power), AD12 VSS (power), AD16 VSS (power), AD25 VSS (power), AE1 VSS (power), AE8 VSS (power), AE12 VSS (power), AE16 VSS (power), AE24 VSS (power), AE25 VSS (power), B25 VSS (power), F13 VSS (power), G13 VSS (power), G19 VSS (power), H13 VSS (power), H16 VSS (power), H18 VSS (power), H20 VSS (power), J7 VSS (power), J13 VSS (power), K7 VSS (power), K13 VSS (power), K15 VSS (power), K19 VSS (power), L20 VSS (power), M7 VSS (power), M8 VSS (power), M10 VSS (power), M12 VSS (power), M13 VSS (power), M17 VSS (power), M18 VSS (power), N15 VSS (power), P7 VSS (power), P10 VSS (power), P13 VSS (power), R13 VSS (power), R15 VSS (power), R18 VSS (power), R20 VSS (power), T8 VSS (power), T13 VSS (power), T14 VSS (power), T16 VSS (power), T17 VSS (power), T18 VSS (power), U8 VSS (power), U19 VSS (power), V9 VSS (power), V10 VSS (power), V11 VSS (power), V13 VSS (power), V16 VSS (power), V18 VSS (power), W7 VSS (power), Y2 VSS (power)

## ANT_431115300245
designator A?
pins: 1 FEED, 2 NC

## AT24C64D-MAHM-T_UDFN8
designator U?
pins: 1 A0, 2 A1, 3 A2 (in), 4 GND (power), 5 SDA (in), 6 SCL (in), 7 WP (in), 8 VCC (power), 9 EPAD (power)

## CAP
designator C?
pins: 1, 2

## CAP_Dup1
designator C?
pins: 1, 2

## CAP_Dup2
designator C?
pins: 1, 2

## CAP_Dup3
designator C?
footprint CAP0402N
pins: 1, 2

## CAP_POL
designator C?
pins: 1, 2
text: +

## CON4_USB_A-47504
designator J?
pins: 1 VBUS (power), 2 D-, 3 D+, 4 GND1 (power), SH1 (power), SH2 (power), SH3 (power), SH4 (power)

## CON_3_U.FL-R-SMT
designator J?
pins: 1 FEED, 2 GND1 (power), 3 GND2 (power)

## CON_AUDIOJACK4_SJ-43514-SMT
designator J?
pins: 1, 2, 3, 4

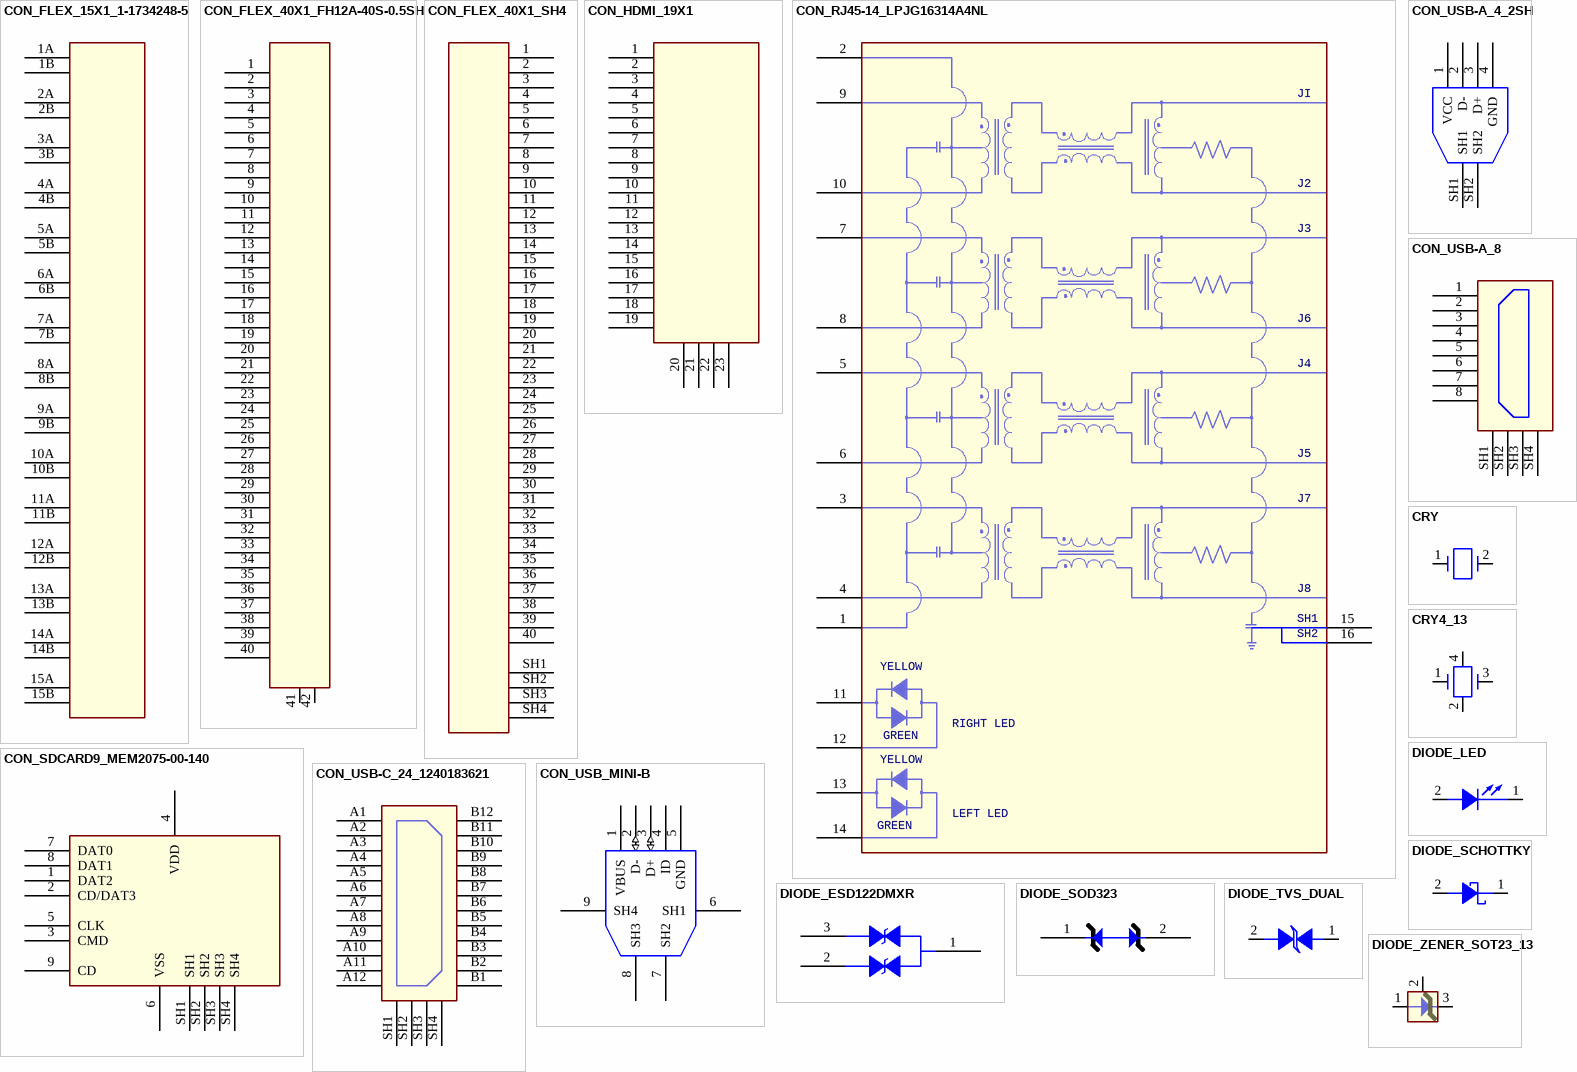
[diagram p5: symbols CON_FLEX_15X1_1-1734248-5 to DIODE_ZENER_SOT23_13]

## CON_FLEX_15X1_1-1734248-5
designator J?
pins: 1A, 1B, 2A, 2B, 3A, 3B, 4A, 4B, 5A, 5B, 6A, 6B, 7A, 7B, 8A, 8B, 9A, 9B, 10A, 10B, 11A, 11B, 12A, 12B, 13A, 13B, 14A, 14B, 15A, 15B

## CON_FLEX_40X1_FH12A-40S-0.5SH
designator J?
pins: 1, 2, 3, 4, 5, 6, 7, 8, 9, 10, 11, 12, 13, 14, 15, 16, 17, 18, 19, 20, 21, 22, 23, 24, 25, 26, 27, 28, 29, 30, 31, 32, 33, 34, 35, 36, 37, 38, 39, 40, 41, 42

## CON_FLEX_40X1_SH4
designator J?
pins: 1, 2, 3, 4, 5, 6, 7, 8, 9, 10, 11, 12, 13, 14, 15, 16, 17, 18, 19, 20, 21, 22, 23, 24, 25, 26, 27, 28, 29, 30, 31, 32, 33, 34, 35, 36, 37, 38, 39, 40, SH1, SH2, SH3, SH4

## CON_HDMI_19X1
designator J?
pins: 1, 2, 3, 4, 5, 6, 7, 8, 9, 10, 11, 12, 13, 14, 15, 16, 17, 18, 19, 20, 21, 22, 23

## CON_RJ45-14_LPJG16314A4NL
designator J?
pins: 1 CH-GND, 2 VCC, 3 MX3+, 4 MX3-, 5 MX2+, 6 MX2-, 7 MX1+, 8 MX1-, 9 MX0+, 10 MX0-, 11, 12, 13, 14, 15 SH1, 16 SH2
text: JI; J2; J3; J6; J4; J5; J7; J8; YELLOW; RIGHT LED; GREEN; LEFT LED

## CON_SDCARD9_MEM2075-00-140
designator U?
pins: 1 DAT2, 2 CD/DAT3, 3 CMD, 4 VDD (power), 5 CLK, 6 VSS (power), 7 DAT0, 8 DAT1, 9 CD, SH1, SH2, SH3, SH4

## CON_USB-A_4_2SH
designator J?
pins: 1 VCC (power), 2 D-, 3 D+, 4 GND (power), SH1, SH2

## CON_USB-A_8
designator J?
pins: 1, 2, 3, 4, 5, 6, 7, 8, SH1, SH2, SH3, SH4

## CON_USB-C_24_1240183621
designator J?
pins: A1 GND (power), A2 TX1+, A3 TX1-, A4 VBUS1, A5 CC1, A6 D+_1, A7 D-_1, A8 SBU1, A9 VBUS2, A10 RX2-, A11 RX2+, A12 GND (power), B1 GND (power), B2 TX2+, B3 TX2-, B4 VBUS3, B5 CC2, B6 D+_2, B7 D-_2, B8 SBU2, B9 VBUS4, B10 RX1-, B11 RX1+, B12 GND (power), SH1, SH2, SH3, SH4

## CON_USB_MINI-B
designator J?
pins: 1 VBUS (power), 2 D- (io), 3 D+ (io), 4 ID, 5 GND (power), 6 SH1 (power), 7 SH2 (power), 8 SH3 (power), 9 SH4 (power)

## CRY
designator Y?
pins: 1, 2

## CRY4_13
designator Y?
pins: 1, 2, 3, 4

## DIODE_ESD122DMXR
designator D?
pins: 1 GND (power), 2 IO1, 3 IO2

## DIODE_LED
designator LD?
pins: 1 CATHODE, 2 ANODE

## DIODE_SCHOTTKY
designator D?
pins: 1 CATHODE, 2 ANODE

## DIODE_SOD323
designator D?
pins: 1, 2

## DIODE_TVS_DUAL
designator D?
pins: 1 CATHODE, 2 ANODE

## DIODE_ZENER_SOT23_13
designator D?
pins: 1 A, 2 NC, 3 C

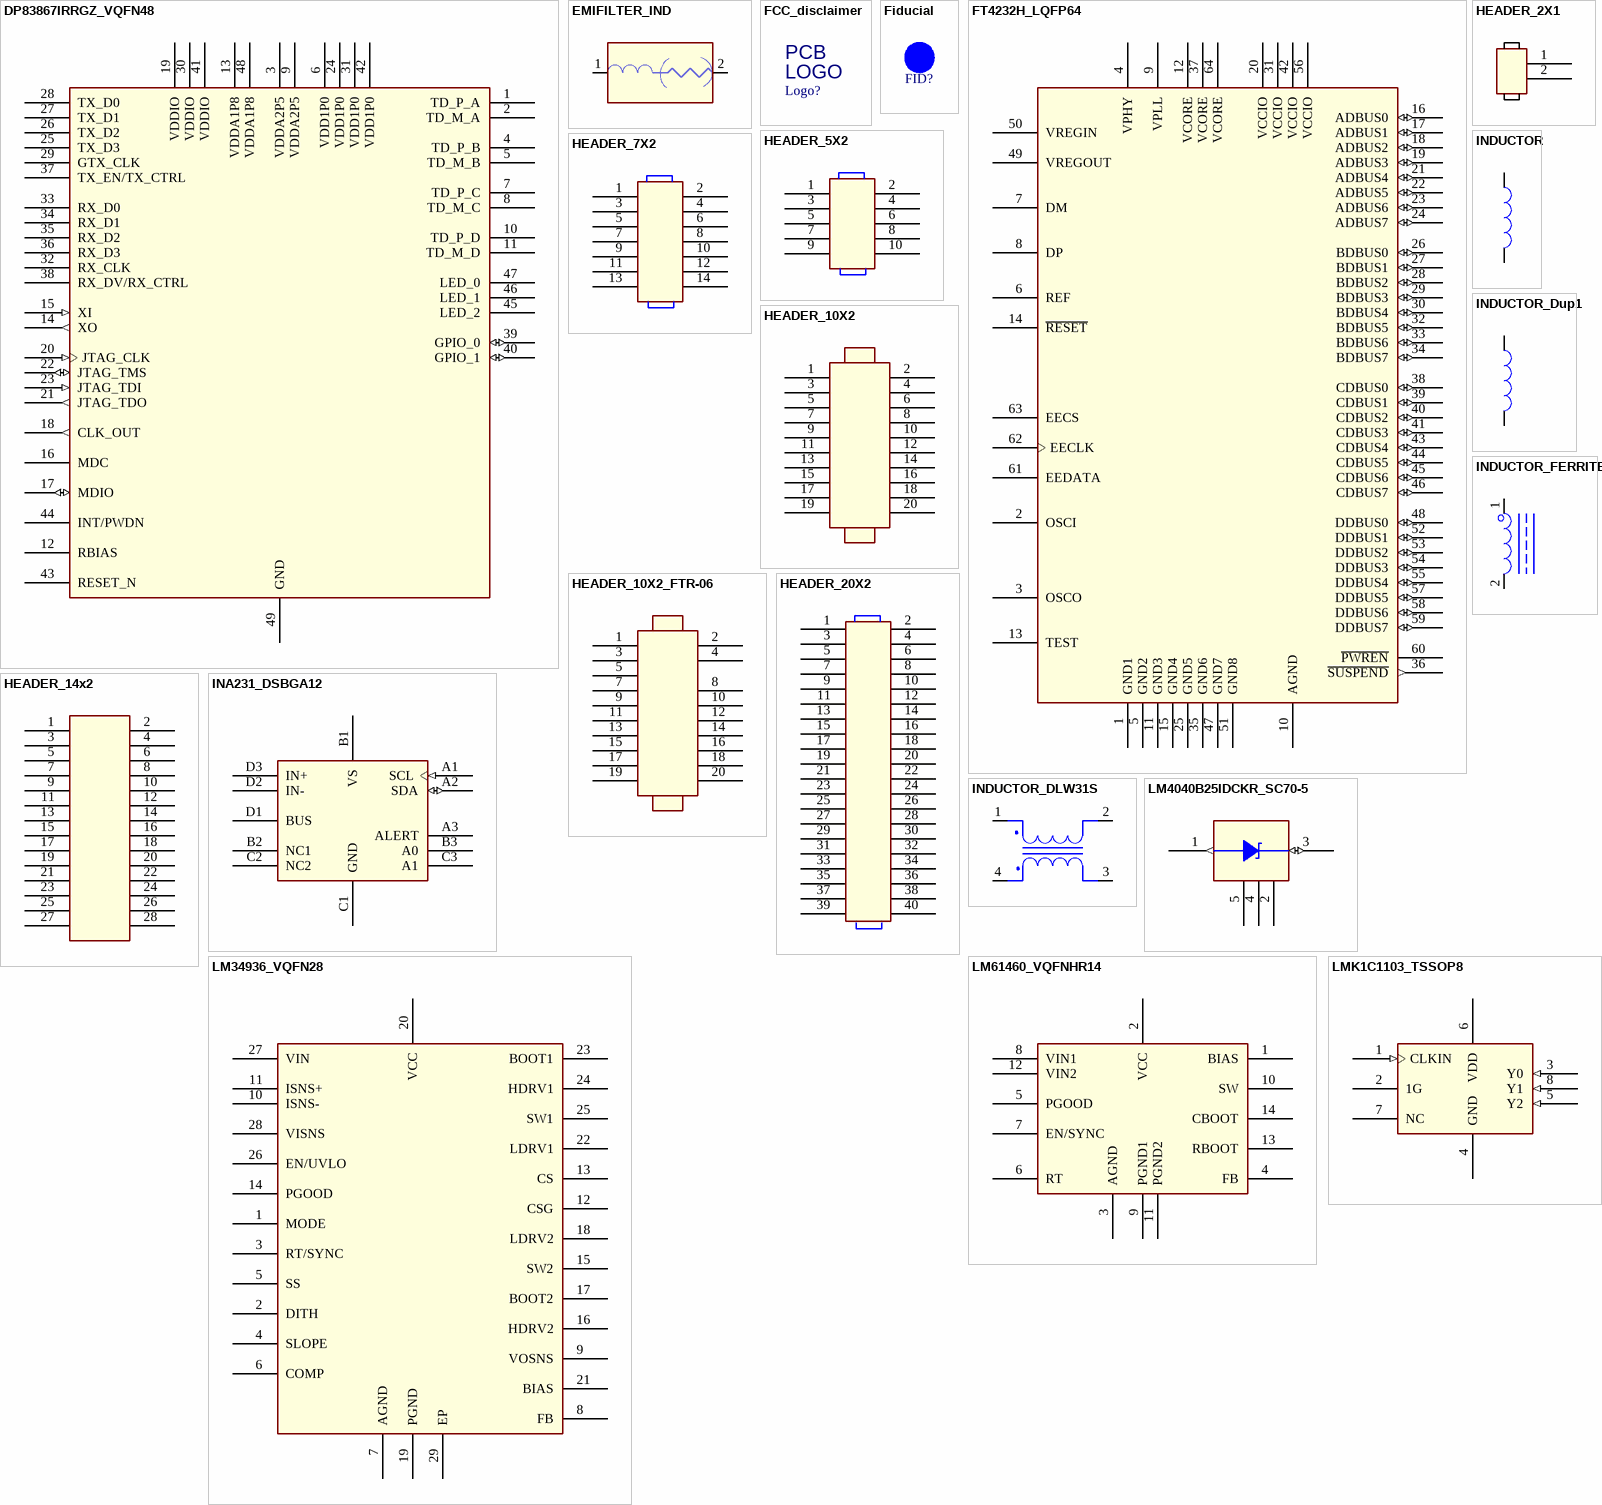
[diagram p6: symbols DP83867IRRGZ_VQFN48 to LMK1C1103_TSSOP8]

## DP83867IRRGZ_VQFN48
designator U?
pins: 1 TD_P_A, 2 TD_M_A, 3 VDDA2P5 (power), 4 TD_P_B, 5 TD_M_B, 6 VDD1P0 (power), 7 TD_P_C, 8 TD_M_C, 9 VDDA2P5 (power), 10 TD_P_D, 11 TD_M_D, 12 RBIAS, 13 VDDA1P8 (power), 14 XO (out), 15 XI (in), 16 MDC, 17 MDIO (io), 18 CLK_OUT (out), 19 VDDIO (power), 20 JTAG_CLK (in), 21 JTAG_TDO (out), 22 JTAG_TMS (io), 23 JTAG_TDI (in), 24 VDD1P0 (power), 25 TX_D3, 26 TX_D2, 27 TX_D1, 28 TX_D0, 29 GTX_CLK, 30 VDDIO (power), 31 VDD1P0 (power), 32 RX_CLK, 33 RX_D0, 34 RX_D1, 35 RX_D2, 36 RX_D3, 37 TX_EN/TX_CTRL, 38 RX_DV/RX_CTRL, 39 GPIO_0 (io), 40 GPIO_1 (io), 41 VDDIO (power), 42 VDD1P0 (power), 43 RESET_N, 44 INT/PWDN, 45 LED_2, 46 LED_1, 47 LED_0, 48 VDDA1P8 (power), 49 GND (power)

## EMIFILTER_IND
designator FL?
pins: 1, 2

## FCC_disclaimer
designator Logo?  (value not drawn)
footprint FCC_disclaimer
text: PCB; LOGO

## Fiducial
designator FID?  (value not drawn)
footprint Fiducial10-20

## FT4232H_LQFP64
designator U?
footprint LQF64
pins: 1 GND1 (power), 2 OSCI, 3 OSCO, 4 VPHY (power), 5 GND2 (power), 6 REF, 7 DM, 8 DP, 9 VPLL (power), 10 AGND (power), 11 GND3 (power), 12 VCORE (power), 13 TEST, 14 ~{RESET}, 15 GND4 (power), 16 ADBUS0 (io), 17 ADBUS1 (io), 18 ADBUS2 (io), 19 ADBUS3 (io), 20 VCCIO (power), 21 ADBUS4 (io), 22 ADBUS5 (io), 23 ADBUS6 (io), 24 ADBUS7 (io), 25 GND5 (power), 26 BDBUS0 (io), 27 BDBUS1 (io), 28 BDBUS2 (io), 29 BDBUS3 (io), 30 BDBUS4 (io), 31 VCCIO (power), 32 BDBUS5 (io), 33 BDBUS6 (io), 34 BDBUS7 (io), 35 GND6 (power), 36 ~{SUSPEND} (out), 37 VCORE (power), 38 CDBUS0 (io), 39 CDBUS1 (io), 40 CDBUS2 (io), 41 CDBUS3 (io), 42 VCCIO (power), 43 CDBUS4 (io), 44 CDBUS5 (io), 45 CDBUS6 (io), 46 CDBUS7 (io), 47 GND7 (power), 48 DDBUS0 (io), 49 VREGOUT (power), 50 VREGIN (power), 51 GND8 (power), 52 DDBUS1 (io), 53 DDBUS2 (io), 54 DDBUS3 (io), 55 DDBUS4 (io), 56 VCCIO (power), 57 DDBUS5 (io), 58 DDBUS6 (io), 59 DDBUS7 (io), 60 ~{PWREN}, 61 EEDATA, 62 EECLK, 63 EECS, 64 VCORE (power)

## HEADER_2X1
designator J?
pins: 1, 2

## HEADER_5X2
designator J?
pins: 1, 2, 3, 4, 5, 6, 7, 8, 9, 10

## HEADER_7X2
designator J?
pins: 1, 2, 3, 4, 5, 6, 7, 8, 9, 10, 11, 12, 13, 14

## HEADER_10X2
designator J?
pins: 1, 2, 3, 4, 5, 6, 7, 8, 9, 10, 11, 12, 13, 14, 15, 16, 17, 18, 19, 20

## HEADER_10X2_FTR-06
designator J?
pins: 1, 2, 3, 4, 5, 7, 8, 9, 10, 11, 12, 13, 14, 15, 16, 17, 18, 19, 20

## HEADER_14x2
designator J?
pins: 1, 2, 3, 4, 5, 6, 7, 8, 9, 10, 11, 12, 13, 14, 15, 16, 17, 18, 19, 20, 21, 22, 23, 24, 25, 26, 27, 28

## HEADER_20X2
designator J?
pins: 1, 2, 3, 4, 5, 6, 7, 8, 9, 10, 11, 12, 13, 14, 15, 16, 17, 18, 19, 20, 21, 22, 23, 24, 25, 26, 27, 28, 29, 30, 31, 32, 33, 34, 35, 36, 37, 38, 39, 40

## INA231_DSBGA12
designator U?
pins: A1 SCL (in), A2 SDA (io), A3 ALERT, B1 VS (power), B2 NC1, B3 A0, C1 GND (power), C2 NC2, C3 A1, D1 BUS, D2 IN-, D3 IN+

## INDUCTOR
designator L?
pins: 1, 2

## INDUCTOR_DLW31S
designator L?
pins: 1 IN1, 2 IN2, 3 OUT1, 4 OUT2

## INDUCTOR_Dup1
designator L?
pins: 1, 2

## INDUCTOR_FERRITE
designator FB?
pins: 1, 2

## LM4040B25IDCKR_SC70-5
designator U?
pins: 1 ANODE (out), 2 NC1, 3 CATHODE (io), 4 NC2, 5 NC3

## LM34936_VQFN28
designator U?
pins: 1 MODE, 2 DITH, 3 RT/SYNC, 4 SLOPE, 5 SS, 6 COMP, 7 AGND (power), 8 FB, 9 VOSNS, 10 ISNS-, 11 ISNS+, 12 CSG, 13 CS, 14 PGOOD, 15 SW2, 16 HDRV2, 17 BOOT2, 18 LDRV2, 19 PGND (power), 20 VCC (power), 21 BIAS, 22 LDRV1, 23 BOOT1, 24 HDRV1, 25 SW1, 26 EN/UVLO, 27 VIN, 28 VISNS, 29 EP (power)

## LM61460_VQFNHR14
designator U?
pins: 1 BIAS, 2 VCC (power), 3 AGND (power), 4 FB, 5 PGOOD, 6 RT, 7 EN/SYNC, 8 VIN1, 9 PGND1 (power), 10 SW, 11 PGND2 (power), 12 VIN2, 13 RBOOT, 14 CBOOT

## LMK1C1103_TSSOP8
designator U?
pins: 1 CLKIN (in), 2 1G, 3 Y0 (in), 4 GND (power), 5 Y2 (in), 6 VDD (power), 7 NC, 8 Y1 (in)

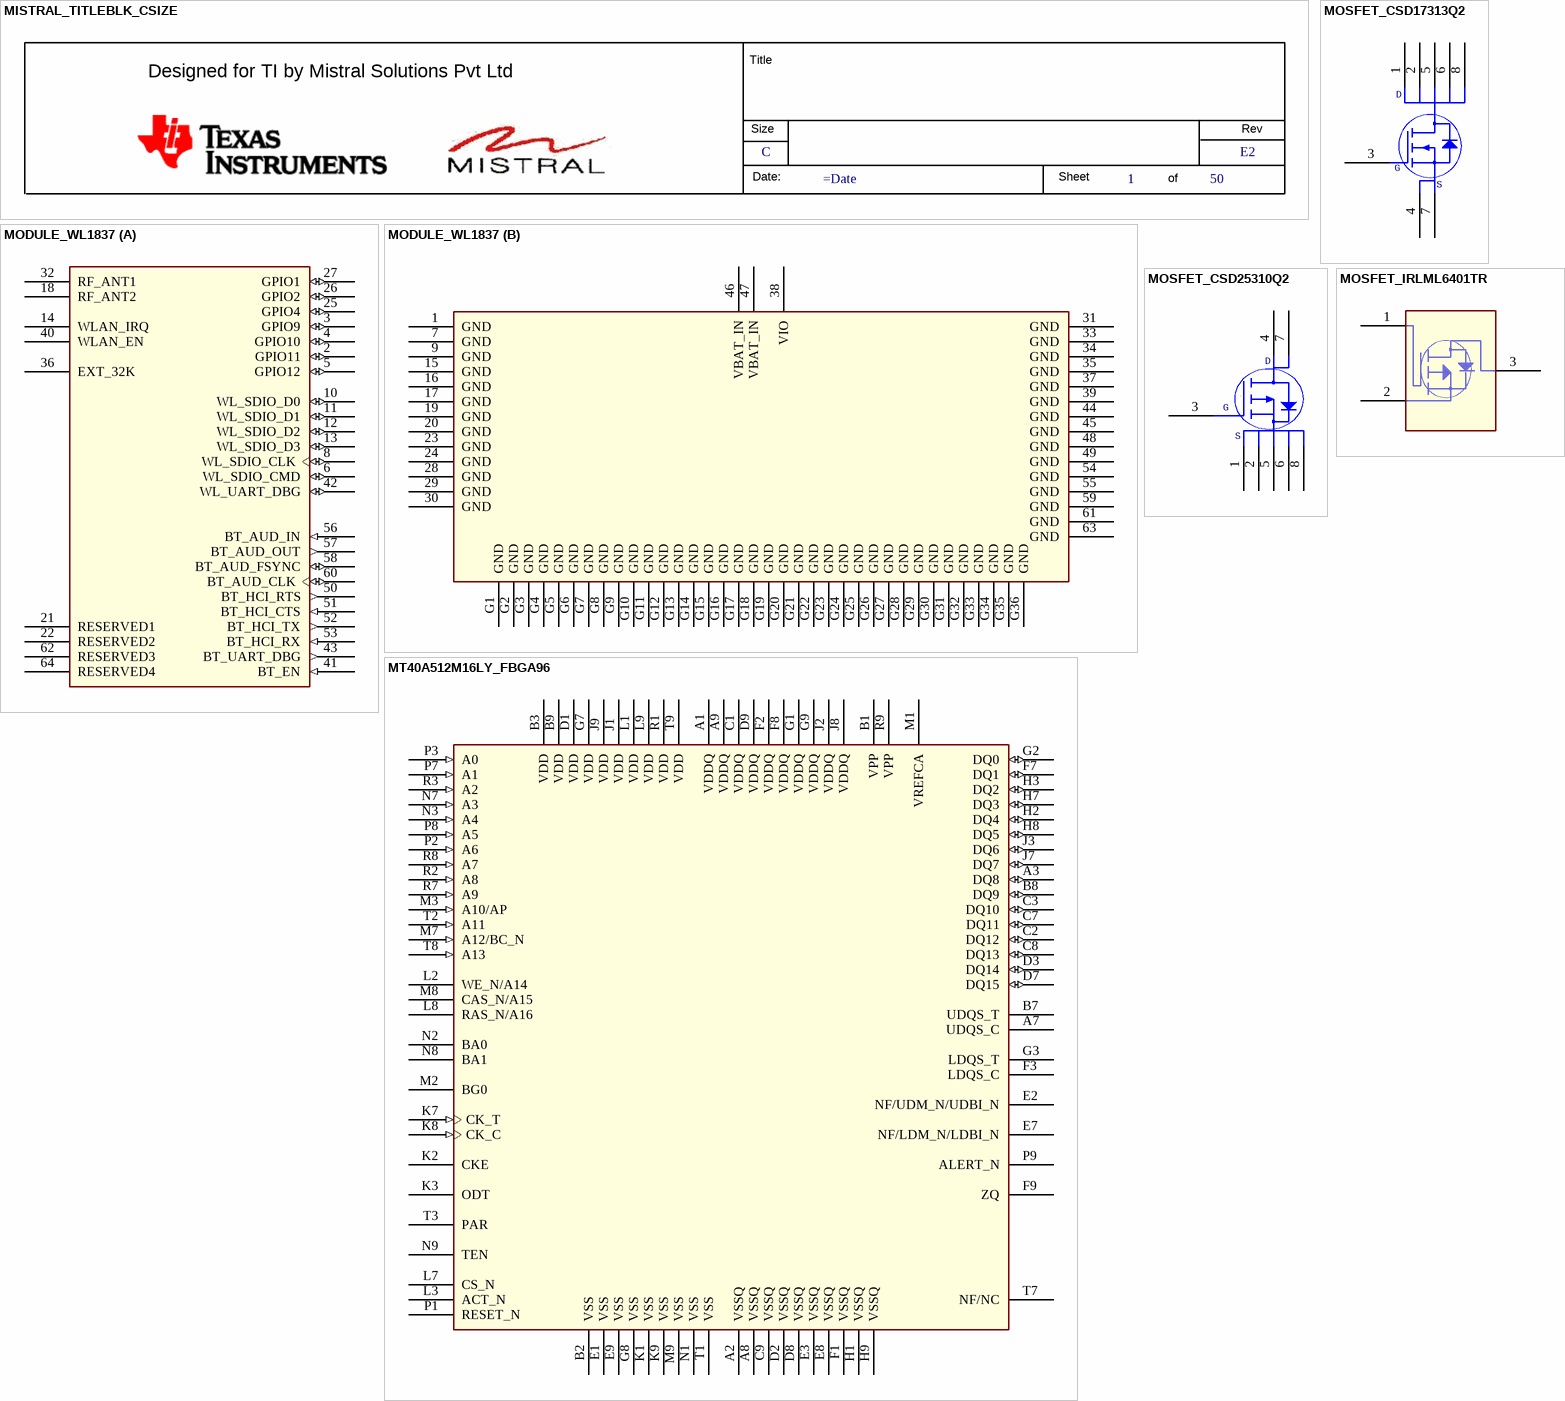
[diagram p7: symbols MISTRAL_TITLEBLK_CSIZE to MT40A512M16LY_FBGA96]

## MISTRAL_TITLEBLK_CSIZE
designator *  RevCode: E2  Page Size: C  Page Number: 1  Page Count: 50  (hidden comment: *)  (graphical)
Issue: 1.0; Page Create Date: March  8, 1995; Page Modify Date: =Date
text: Title; Designed for TI by Mistral Solutions Pvt Ltd; Size; Rev; Date:; Sheet; of

## MODULE_WL1837
designator MOD?
part A pins: 2 GPIO11 (io), 3 GPIO9 (io), 4 GPIO10 (io), 5 GPIO12 (io), 6 WL_SDIO_CMD (io), 8 WL_SDIO_CLK (io), 10 WL_SDIO_D0 (io), 11 WL_SDIO_D1 (io), 12 WL_SDIO_D2 (io), 13 WL_SDIO_D3 (io), 14 WLAN_IRQ, 18 RF_ANT2, 21 RESERVED1, 22 RESERVED2, 25 GPIO4 (io), 26 GPIO2 (io), 27 GPIO1 (io), 32 RF_ANT1, 36 EXT_32K, 40 WLAN_EN, 41 BT_EN (in), 42 WL_UART_DBG (io), 43 BT_UART_DBG (out), 50 BT_HCI_RTS (out), 51 BT_HCI_CTS (in), 52 BT_HCI_TX (out), 53 BT_HCI_RX (in), 56 BT_AUD_IN (in), 57 BT_AUD_OUT (out), 58 BT_AUD_FSYNC (io), 60 BT_AUD_CLK (io), 62 RESERVED3, 64 RESERVED4
part B pins: 1 GND (power), 7 GND (power), 9 GND (power), 15 GND (power), 16 GND (power), 17 GND (power), 19 GND (power), 20 GND (power), 23 GND (power), 24 GND (power), 28 GND (power), 29 GND (power), 30 GND (power), 31 GND (power), 33 GND (power), 34 GND (power), 35 GND (power), 37 GND (power), 38 VIO (power), 39 GND (power), 44 GND (power), 45 GND (power), 46 VBAT_IN (power), 47 VBAT_IN (power), 48 GND (power), 49 GND (power), 54 GND (power), 55 GND (power), 59 GND (power), 61 GND (power), 63 GND (power), G1 GND (power), G2 GND (power), G3 GND (power), G4 GND (power), G5 GND (power), G6 GND (power), G7 GND (power), G8 GND (power), G9 GND (power), G10 GND (power), G11 GND (power), G12 GND (power), G13 GND (power), G14 GND (power), G15 GND (power), G16 GND (power), G17 GND (power), G18 GND (power), G19 GND (power), G20 GND (power), G21 GND (power), G22 GND (power), G23 GND (power), G24 GND (power), G25 GND (power), G26 GND (power), G27 GND (power), G28 GND (power), G29 GND (power), G30 GND (power), G31 GND (power), G32 GND (power), G33 GND (power), G34 GND (power), G35 GND (power), G36 GND (power)

## MOSFET_CSD17313Q2
designator Q?
pins: 1 D1, 2 D2, 3 G, 4 S1, 5 D3, 6 D4, 7 S2, 8 D5
text: D; S

## MOSFET_CSD25310Q2
designator Q?
pins: 1 S1, 2 S2, 3 G, 4 D1, 5 S3, 6 S4, 7 D2, 8 S5
text: D; S

## MOSFET_IRLML6401TR
designator Q?
pins: 1 G, 2 S, 3 D

## MT40A512M16LY_FBGA96
designator U?
pins: A1 VDDQ (power), A2 VSSQ (power), A3 DQ8 (io), A7 UDQS_C, A8 VSSQ (power), A9 VDDQ (power), B1 VPP (power), B2 VSS (power), B3 VDD (power), B7 UDQS_T, B8 DQ9 (io), B9 VDD (power), C1 VDDQ (power), C2 DQ12 (io), C3 DQ10 (io), C7 DQ11 (io), C8 DQ13 (io), C9 VSSQ (power), D1 VDD (power), D2 VSSQ (power), D3 DQ14 (io), D7 DQ15 (io), D8 VSSQ (power), D9 VDDQ (power), E1 VSS (power), E2 NF/UDM_N/UDBI_N, E3 VSSQ (power), E7 NF/LDM_N/LDBI_N, E8 VSSQ (power), E9 VSS (power), F1 VSSQ (power), F2 VDDQ (power), F3 LDQS_C, F7 DQ1 (io), F8 VDDQ (power), F9 ZQ, G1 VDDQ (power), G2 DQ0 (io), G3 LDQS_T, G7 VDD (power), G8 VSS (power), G9 VDDQ (power), H1 VSSQ (power), H2 DQ4 (io), H3 DQ2 (io), H7 DQ3 (io), H8 DQ5 (io), H9 VSSQ (power), J1 VDD (power), J2 VDDQ (power), J3 DQ6 (io), J7 DQ7 (io), J8 VDDQ (power), J9 VDD (power), K1 VSS (power), K2 CKE, K3 ODT, K7 CK_T (in), K8 CK_C (in), K9 VSS (power), L1 VDD (power), L2 WE_N/A14, L3 ACT_N, L7 CS_N, L8 RAS_N/A16, L9 VDD (power), M1 VREFCA (power), M2 BG0, M3 A10/AP (in), M7 A12/BC_N (in), M8 CAS_N/A15, M9 VSS (power), N1 VSS (power), N2 BA0, N3 A4 (in), N7 A3 (in), N8 BA1, N9 TEN, P1 RESET_N, P2 A6 (in), P3 A0 (in), P7 A1 (in), P8 A5 (in), P9 ALERT_N, R1 VDD (power), R2 A8 (in), R3 A2 (in), R7 A9 (in), R8 A7 (in), R9 VPP (power), T1 VSS (power), T2 A11 (in), T3 PAR, T7 NF/NC, T8 A13 (in), T9 VDD (power)

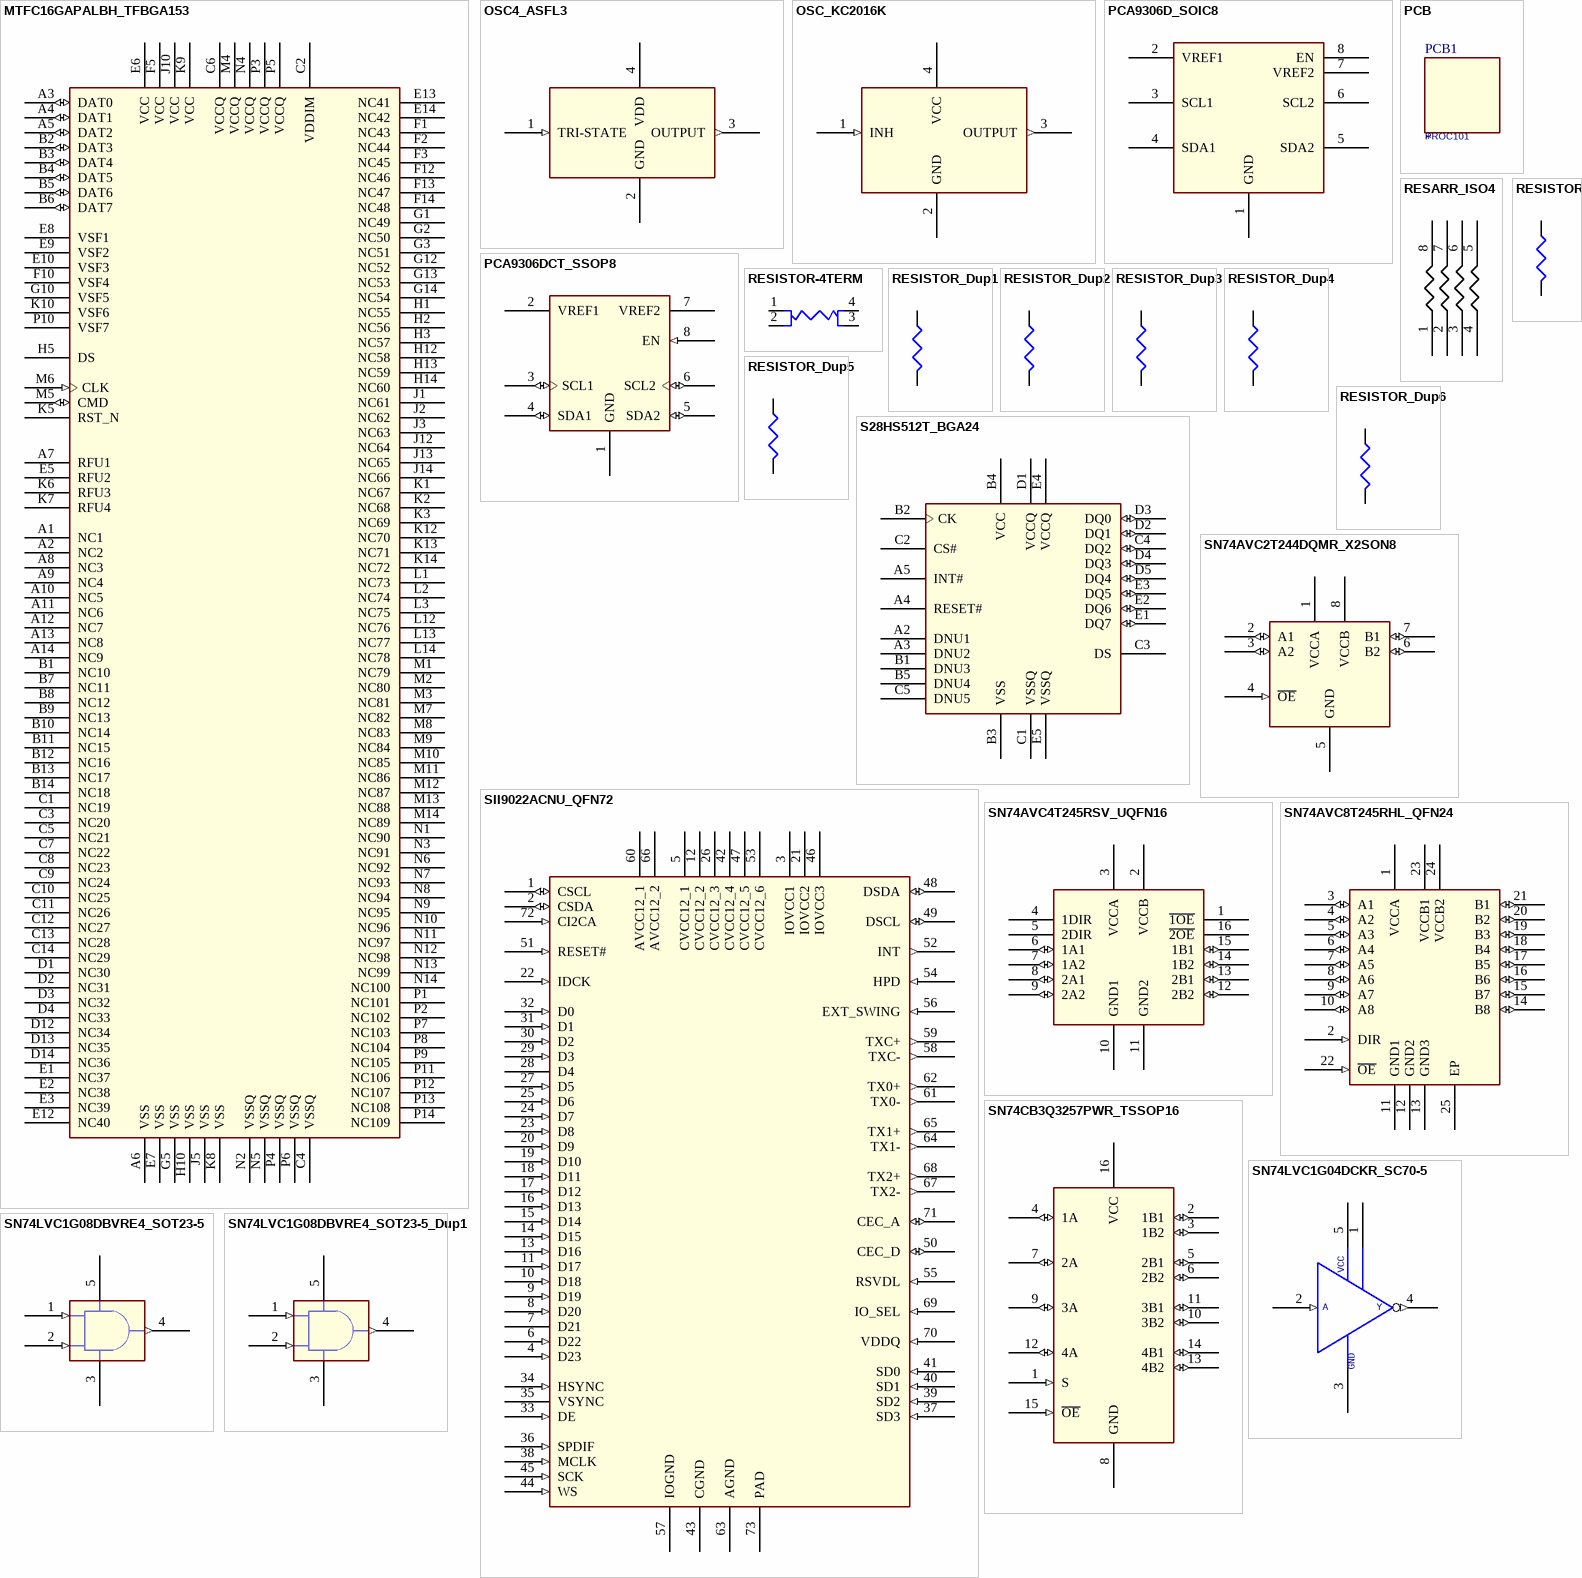
[diagram p8: symbols MTFC16GAPALBH_TFBGA153 to SN74LVC1G08DBVRE4_SOT23-5_Dup1]

## MTFC16GAPALBH_TFBGA153
designator U?
pins: A1 NC1, A2 NC2, A3 DAT0 (io), A4 DAT1 (io), A5 DAT2 (io), A6 VSS (power), A7 RFU1, A8 NC3, A9 NC4, A10 NC5, A11 NC6, A12 NC7, A13 NC8, A14 NC9, B1 NC10, B2 DAT3 (io), B3 DAT4 (io), B4 DAT5 (io), B5 DAT6 (io), B6 DAT7 (io), B7 NC11, B8 NC12, B9 NC13, B10 NC14, B11 NC15, B12 NC16, B13 NC17, B14 NC18, C1 NC19, C2 VDDIM (power), C3 NC20, C4 VSSQ (power), C5 NC21, C6 VCCQ (power), C7 NC22, C8 NC23, C9 NC24, C10 NC25, C11 NC26, C12 NC27, C13 NC28, C14 NC29, D1 NC30, D2 NC31, D3 NC32, D4 NC33, D12 NC34, D13 NC35, D14 NC36, E1 NC37, E2 NC38, E3 NC39, E5 RFU2, E6 VCC (power), E7 VSS (power), E8 VSF1, E9 VSF2, E10 VSF3, E12 NC40, E13 NC41, E14 NC42, F1 NC43, F2 NC44, F3 NC45, F5 VCC (power), F10 VSF4, F12 NC46, F13 NC47, F14 NC48, G1 NC49, G2 NC50, G3 NC51, G5 VSS (power), G10 VSF5, G12 NC52, G13 NC53, G14 NC54, H1 NC55, H2 NC56, H3 NC57, H5 DS, H10 VSS (power), H12 NC58, H13 NC59, H14 NC60, J1 NC61, J2 NC62, J3 NC63, J5 VSS (power), J10 VCC (power), J12 NC64, J13 NC65, J14 NC66, K1 NC67, K2 NC68, K3 NC69, K5 RST_N, K6 RFU3, K7 RFU4, K8 VSS (power), K9 VCC (power), K10 VSF6, K12 NC70, K13 NC71, K14 NC72, L1 NC73, L2 NC74, L3 NC75, L12 NC76, L13 NC77, L14 NC78, M1 NC79, M2 NC80, M3 NC81, M4 VCCQ (power), M5 CMD (io), M6 CLK (in), M7 NC82, M8 NC83, M9 NC84, M10 NC85, M11 NC86, M12 NC87, M13 NC88, M14 NC89, N1 NC90, N2 VSSQ (power), N3 NC91, N4 VCCQ (power), N5 VSSQ (power), N6 NC92, N7 NC93, N8 NC94, N9 NC95, N10 NC96, N11 NC97, N12 NC98, N13 NC99, N14 NC100, P1 NC101, P2 NC102, P3 VCCQ (power), P4 VSSQ (power), P5 VCCQ (power), P6 VSSQ (power), P7 NC103, P8 NC104, P9 NC105, P10 VSF7, P11 NC106, P12 NC107, P13 NC108, P14 NC109

## OSC4_ASFL3
designator U?
pins: 1 TRI-STATE (in), 2 GND (power), 3 OUTPUT (out), 4 VDD (power)

## OSC_KC2016K
designator U?
pins: 1 INH (in), 2 GND (power), 3 OUTPUT (out), 4 VCC (power)

## PCA9306D_SOIC8
designator U?
pins: 1 GND (power), 2 VREF1, 3 SCL1, 4 SDA1, 5 SDA2, 6 SCL2, 7 VREF2, 8 EN

## PCA9306DCT_SSOP8
designator U?
pins: 1 GND (power), 2 VREF1 (power), 3 SCL1 (io), 4 SDA1 (io), 5 SDA2 (io), 6 SCL2 (io), 7 VREF2 (power), 8 EN (in)

## PCB
designator *, comment PCB1  Mfr_part_number: PROC101
Part_type: ACCESSORIES; Mistral Part No: FY201506000101

## RESARR_ISO4
designator RA?
pins: 1, 2, 3, 4, 5, 6, 7, 8

## RESISTOR
designator R?
pins: 1, 2

## RESISTOR-4TERM
designator R?
pins: 1, 2, 3, 4

## RESISTOR_Dup1
designator R?
pins: 1, 2

## RESISTOR_Dup2
designator R?
pins: 1, 2

## RESISTOR_Dup3
designator R?
footprint RES0402N
pins: 1, 2

## RESISTOR_Dup4
designator R?
pins: 1, 2

## RESISTOR_Dup5
designator R?
footprint RES0402N
pins: 1, 2

## RESISTOR_Dup6
designator R?
pins: 1, 2

## S28HS512T_BGA24
designator U?
pins: A2 DNU1, A3 DNU2, A4 RESET#, A5 INT#, B1 DNU3, B2 CK, B3 VSS (power), B4 VCC (power), B5 DNU4, C1 VSSQ (power), C2 CS#, C3 DS, C4 DQ2 (io), C5 DNU5, D1 VCCQ (power), D2 DQ1 (io), D3 DQ0 (io), D4 DQ3 (io), D5 DQ4 (io), E1 DQ7 (io), E2 DQ6 (io), E3 DQ5 (io), E4 VCCQ (power), E5 VSSQ (power)

## SII9022ACNU_QFN72
designator U?
pins: 1 CSCL (io), 2 CSDA (io), 3 IOVCC1 (power), 4 D23 (in), 5 CVCC12_1 (power), 6 D22 (in), 7 D21, 8 D20 (in), 9 D19 (in), 10 D18 (in), 11 D17 (in), 12 CVCC12_2 (power), 13 D16 (in), 14 D15 (in), 15 D14 (in), 16 D13 (in), 17 D12 (in), 18 D11 (in), 19 D10 (in), 20 D9 (in), 21 IOVCC2 (power), 22 IDCK (in), 23 D8 (in), 24 D7 (in), 25 D6 (in), 26 CVCC12_3 (power), 27 D5 (in), 28 D4, 29 D3 (in), 30 D2 (in), 31 D1 (in), 32 D0 (in), 33 DE (in), 34 HSYNC (in), 35 VSYNC, 36 SPDIF (in), 37 SD3 (in), 38 MCLK (in), 39 SD2 (in), 40 SD1 (in), 41 SD0 (in), 42 CVCC12_4 (power), 43 CGND (power), 44 WS (in), 45 SCK (in), 46 IOVCC3 (power), 47 CVCC12_5 (power), 48 DSDA (io), 49 DSCL (io), 50 CEC_D (io), 51 RESET# (in), 52 INT (out), 53 CVCC12_6 (power), 54 HPD (in), 55 RSVDL (in), 56 EXT_SWING (in), 57 IOGND (power), 58 TXC- (out), 59 TXC+ (out), 60 AVCC12_1 (power), 61 TX0- (out), 62 TX0+ (out), 63 AGND (power), 64 TX1- (out), 65 TX1+ (out), 66 AVCC12_2 (power), 67 TX2- (out), 68 TX2+ (out), 69 IO_SEL (in), 70 VDDQ (in), 71 CEC_A (io), 72 CI2CA (in), 73 PAD (power)

## SN74AVC2T244DQMR_X2SON8
designator U?
pins: 1 VCCA (power), 2 A1 (io), 3 A2 (io), 4 ~{OE} (in), 5 GND (power), 6 B2 (io), 7 B1 (io), 8 VCCB (power)

## SN74AVC4T245RSV_UQFN16
designator U?
pins: 1 ~{1OE}, 2 VCCB (power), 3 VCCA (power), 4 1DIR, 5 2DIR, 6 1A1 (io), 7 1A2 (io), 8 2A1 (io), 9 2A2 (io), 10 GND1 (power), 11 GND2 (power), 12 2B2 (io), 13 2B1 (io), 14 1B2 (io), 15 1B1 (io), 16 ~{2OE}

## SN74AVC8T245RHL_QFN24
designator U?
pins: 1 VCCA (power), 2 DIR (in), 3 A1 (io), 4 A2 (io), 5 A3 (io), 6 A4 (io), 7 A5 (io), 8 A6 (io), 9 A7 (io), 10 A8 (io), 11 GND1 (power), 12 GND2 (power), 13 GND3 (power), 14 B8 (io), 15 B7 (io), 16 B6 (io), 17 B5 (io), 18 B4 (io), 19 B3 (io), 20 B2 (io), 21 B1 (io), 22 ~{OE} (in), 23 VCCB1 (power), 24 VCCB2 (power), 25 EP (power)

## SN74CB3Q3257PWR_TSSOP16
designator U?
pins: 1 S (in), 2 1B1 (io), 3 1B2 (io), 4 1A (io), 5 2B1 (io), 6 2B2 (io), 7 2A (io), 8 GND (power), 9 3A (io), 10 3B2 (io), 11 3B1 (io), 12 4A (io), 13 4B2 (io), 14 4B1 (io), 15 ~{OE} (in), 16 VCC (power)

## SN74LVC1G04DCKR_SC70-5
designator U?
pins: 1 NC, 2 A (in), 3 GND (power), 4 Y (out), 5 VCC (power)

## SN74LVC1G08DBVRE4_SOT23-5
designator U?
pins: 1 A (in), 2 B (in), 3 GND (power), 4 Y (out), 5 VCC (power)

## SN74LVC1G08DBVRE4_SOT23-5_Dup1
designator U?
pins: 1 A (in), 2 B (in), 3 GND (power), 4 Y (out), 5 VCC (power)

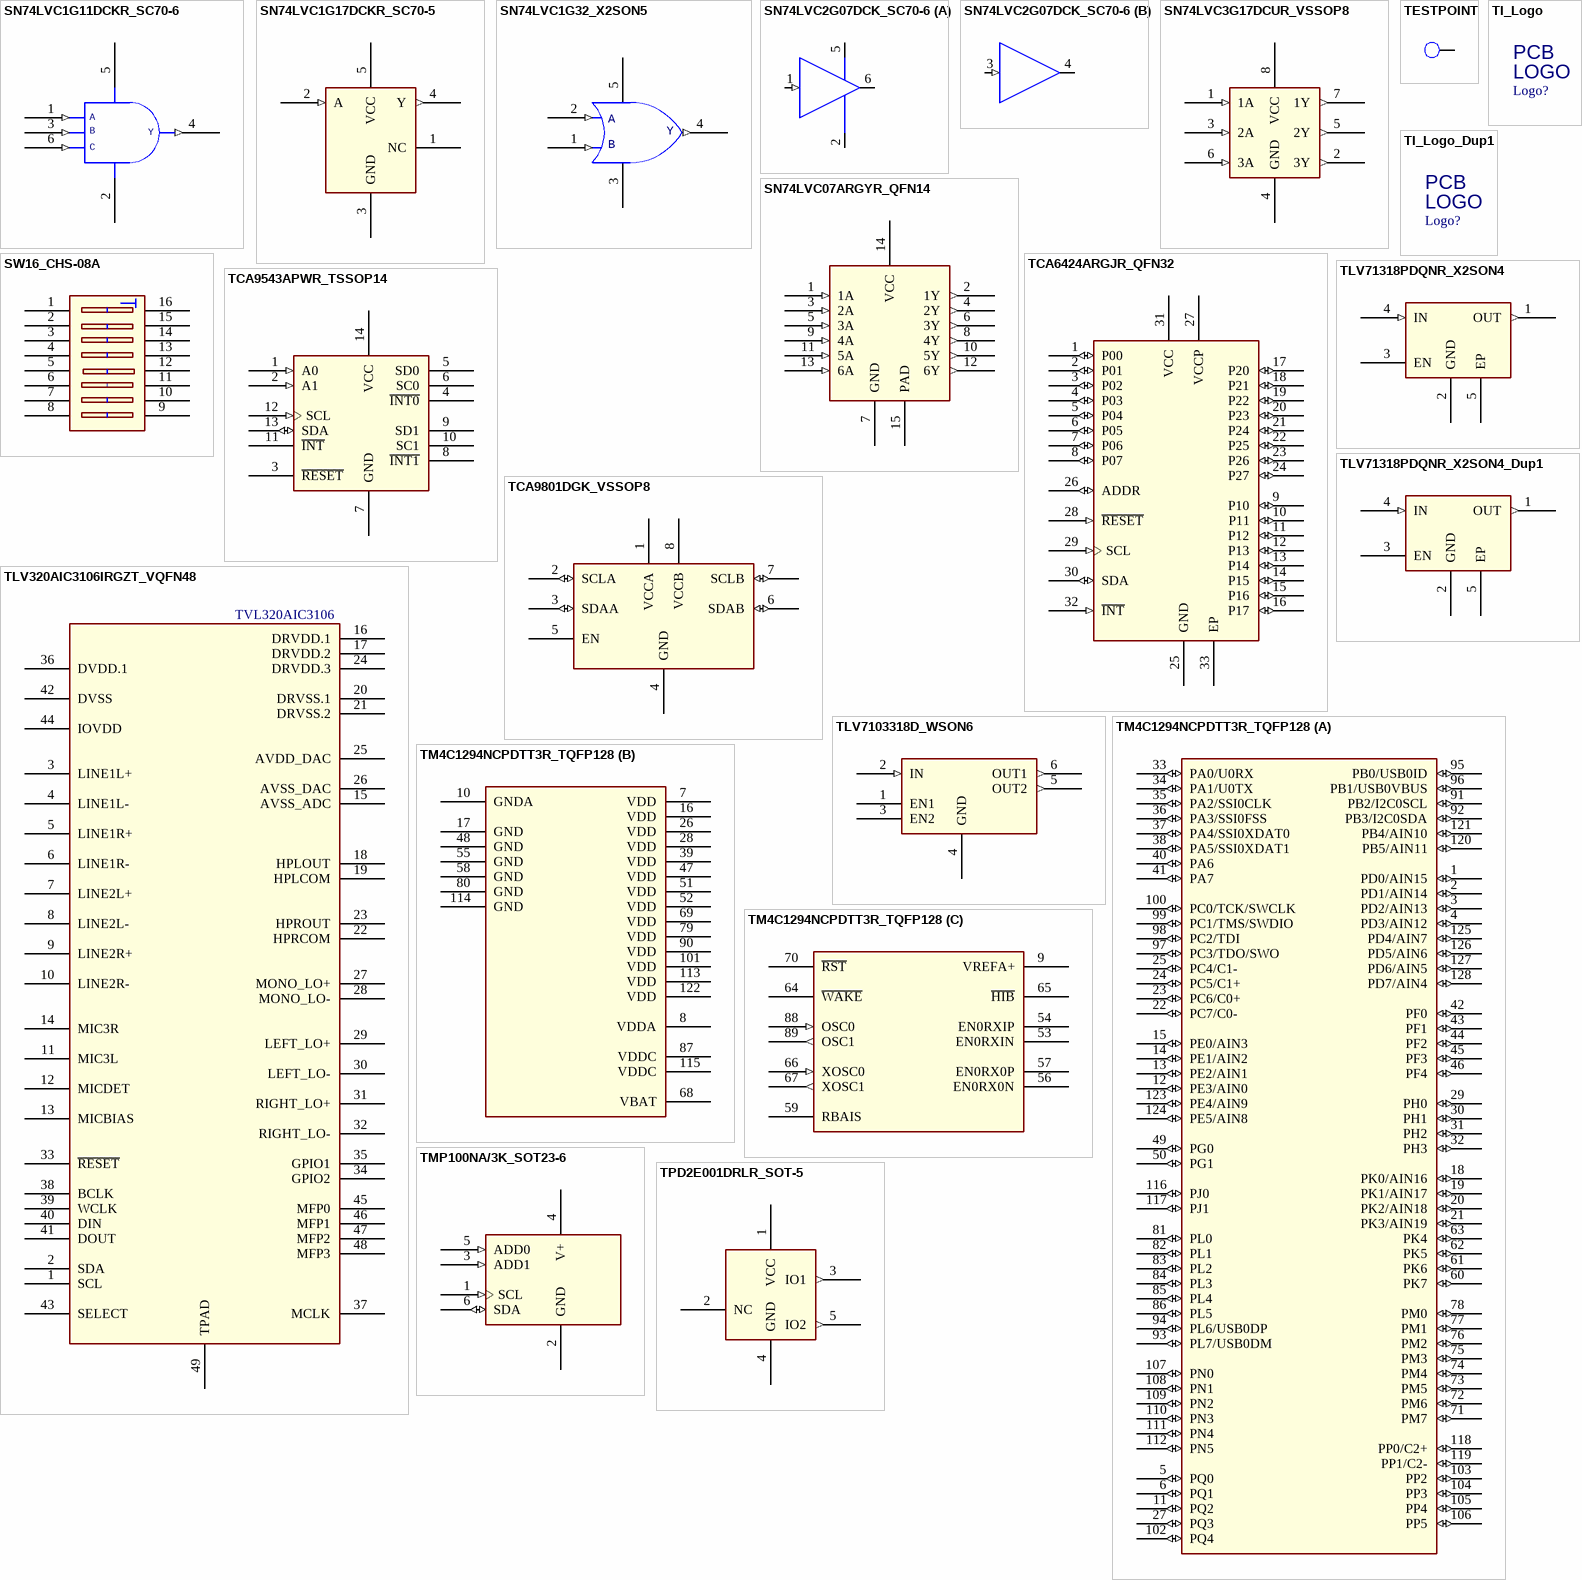
[diagram p9: symbols SN74LVC1G11DCKR_SC70-6 to TPD2E001DRLR_SOT-5]

## SN74LVC1G11DCKR_SC70-6
designator U?
pins: 1 A (in), 2 GND (power), 3 B (in), 4 Y (out), 5 VCC (power), 6 C (in)

## SN74LVC1G17DCKR_SC70-5
designator U?
pins: 1 NC, 2 A (in), 3 GND (power), 4 Y (out), 5 VCC (power)

## SN74LVC1G32_X2SON5
designator U?
pins: 1 B (in), 2 A (in), 3 GND (power), 4 Y (out), 5 VCC (power)

## SN74LVC2G07DCK_SC70-6
designator U?
part A pins: 1 1A (in), 2 GND (power), 5 VCC (power), 6 1Y (oc)
part B pins: 3 2A (in), 4 2Y (oc)

## SN74LVC3G17DCUR_VSSOP8
designator U?
pins: 1 1A (in), 2 3Y (out), 3 2A (in), 4 GND (power), 5 2Y (out), 6 3A (in), 7 1Y (out), 8 VCC (power)

## SN74LVC07ARGYR_QFN14
designator U?
pins: 1 1A (in), 2 1Y (out), 3 2A (in), 4 2Y (out), 5 3A (in), 6 3Y (out), 7 GND (power), 8 4Y (out), 9 4A (in), 10 5Y (out), 11 5A (in), 12 6Y (out), 13 6A (in), 14 VCC (power), 15 PAD (power)

## SW16_CHS-08A
designator SW?
pins: 1, 2, 3, 4, 5, 6, 7, 8, 9, 10, 11, 12, 13, 14, 15, 16

## TCA6424ARGJR_QFN32
designator U?
pins: 1 P00 (io), 2 P01 (io), 3 P02 (io), 4 P03 (io), 5 P04 (io), 6 P05 (io), 7 P06 (io), 8 P07 (io), 9 P10 (io), 10 P11 (io), 11 P12 (io), 12 P13 (io), 13 P14 (io), 14 P15 (io), 15 P16 (io), 16 P17 (io), 17 P20 (io), 18 P21 (io), 19 P22 (io), 20 P23 (io), 21 P24 (io), 22 P25 (io), 23 P26 (io), 24 P27 (io), 25 GND (power), 26 ADDR (io), 27 VCCP (power), 28 ~{RESET} (in), 29 SCL (in), 30 SDA (io), 31 VCC (power), 32 ~{INT} (in), 33 EP (power)

## TCA9543APWR_TSSOP14
designator U?
pins: 1 A0 (in), 2 A1 (in), 3 ~{RESET}, 4 ~{INT0}, 5 SD0, 6 SC0, 7 GND (power), 8 ~{INT1}, 9 SD1, 10 SC1, 11 ~{INT}, 12 SCL (in), 13 SDA (io), 14 VCC (power)

## TCA9801DGK_VSSOP8
designator U?
pins: 1 VCCA (power), 2 SCLA (io), 3 SDAA (io), 4 GND (power), 5 EN, 6 SDAB (io), 7 SCLB (io), 8 VCCB (power)

## TESTPOINT
designator TP?
pins: 1 TP

## TI_Logo
designator Logo?  (value not drawn)
footprint TI_Stacked_Overlay_Small
text: PCB; LOGO

## TI_Logo_Dup1
designator Logo?  (value not drawn)
footprint TI_Stacked_Overlay_Small
text: PCB; LOGO

## TLV320AIC3106IRGZT_VQFN48
designator U?, comment TVL320AIC3106
pins: 1 SCL, 2 SDA, 3 LINE1L+, 4 LINE1L-, 5 LINE1R+, 6 LINE1R-, 7 LINE2L+, 8 LINE2L-, 9 LINE2R+, 10 LINE2R-, 11 MIC3L, 12 MICDET, 13 MICBIAS, 14 MIC3R, 15 AVSS_ADC, 16 DRVDD.1, 17 DRVDD.2, 18 HPLOUT, 19 HPLCOM, 20 DRVSS.1, 21 DRVSS.2, 22 HPRCOM, 23 HPROUT, 24 DRVDD.3, 25 AVDD_DAC, 26 AVSS_DAC, 27 MONO_LO+, 28 MONO_LO-, 29 LEFT_LO+, 30 LEFT_LO-, 31 RIGHT_LO+, 32 RIGHT_LO-, 33 ~{RESET}, 34 GPIO2, 35 GPIO1, 36 DVDD.1, 37 MCLK, 38 BCLK, 39 WCLK, 40 DIN, 41 DOUT, 42 DVSS, 43 SELECT, 44 IOVDD, 45 MFP0, 46 MFP1, 47 MFP2, 48 MFP3, 49 TPAD

## TLV71318PDQNR_X2SON4
designator U?
pins: 1 OUT (out), 2 GND (power), 3 EN, 4 IN (in), 5 EP (power)

## TLV71318PDQNR_X2SON4_Dup1
designator U?
pins: 1 OUT (out), 2 GND (power), 3 EN, 4 IN (in), 5 EP (power)

## TLV7103318D_WSON6
designator U?
pins: 1 EN1, 2 IN (in), 3 EN2, 4 GND (power), 5 OUT2 (out), 6 OUT1 (out)

## TM4C1294NCPDTT3R_TQFP128
designator U?
part A pins: 1 PD0/AIN15 (io), 2 PD1/AIN14 (io), 3 PD2/AIN13 (io), 4 PD3/AIN12 (io), 5 PQ0 (io), 6 PQ1 (io), 11 PQ2 (io), 12 PE3/AIN0 (io), 13 PE2/AIN1 (io), 14 PE1/AIN2 (io), 15 PE0/AIN3 (io), 18 PK0/AIN16 (io), 19 PK1/AIN17 (io), 20 PK2/AIN18 (io), 21 PK3/AIN19 (io), 22 PC7/C0- (io), 23 PC6/C0+ (io), 24 PC5/C1+ (io), 25 PC4/C1- (io), 27 PQ3 (io), 29 PH0 (io), 30 PH1 (io), 31 PH2 (io), 32 PH3 (io), 33 PA0/U0RX (io), 34 PA1/U0TX (io), 35 PA2/SSI0CLK (io), 36 PA3/SSI0FSS (io), 37 PA4/SSI0XDAT0 (io), 38 PA5/SSI0XDAT1 (io), 40 PA6 (io), 41 PA7 (io), 42 PF0 (io), 43 PF1 (io), 44 PF2 (io), 45 PF3 (io), 46 PF4 (io), 49 PG0 (io), 50 PG1 (io), 60 PK7 (io), 61 PK6 (io), 62 PK5 (io), 63 PK4 (io), 71 PM7 (io), 72 PM6 (io), 73 PM5 (io), 74 PM4 (io), 75 PM3 (io), 76 PM2 (io), 77 PM1 (io), 78 PM0 (io), 81 PL0 (io), 82 PL1 (io), 83 PL2 (io), 84 PL3 (io), 85 PL4 (io), 86 PL5 (io), 91 PB2/I2C0SCL (io), 92 PB3/I2C0SDA (io), 93 PL7/USB0DM (io), 94 PL6/USB0DP (io), 95 PB0/USB0ID (io), 96 PB1/USB0VBUS (io), 97 PC3/TDO/SWO (io), 98 PC2/TDI (io), 99 PC1/TMS/SWDIO (io), 100 PC0/TCK/SWCLK (io), 102 PQ4 (io), 103 PP2 (io), 104 PP3 (io), 105 PP4 (io), 106 PP5 (io), 107 PN0 (io), 108 PN1 (io), 109 PN2 (io), 110 PN3 (io), 111 PN4 (io), 112 PN5 (io), 116 PJ0 (io), 117 PJ1 (io), 118 PP0/C2+ (io), 119 PP1/C2- (io), 120 PB5/AIN11 (io), 121 PB4/AIN10 (io), 123 PE4/AIN9 (io), 124 PE5/AIN8 (io), 125 PD4/AIN7 (io), 126 PD5/AIN6 (io), 127 PD6/AIN5 (io), 128 PD7/AIN4 (io)
part B pins: 7 VDD (power), 8 VDDA (power), 10 GNDA (power), 16 VDD (power), 17 GND (power), 26 VDD (power), 28 VDD (power), 39 VDD (power), 47 VDD (power), 48 GND (power), 51 VDD (power), 52 VDD (power), 55 GND (power), 58 GND (power), 68 VBAT (power), 69 VDD (power), 79 VDD (power), 80 GND (power), 87 VDDC (power), 90 VDD (power), 101 VDD (power), 113 VDD (power), 114 GND (power), 115 VDDC (power), 122 VDD (power)
part C pins: 9 VREFA+, 53 EN0RXIN, 54 EN0RXIP, 56 EN0RX0N, 57 EN0RX0P, 59 RBAIS, 64 ~{WAKE}, 65 ~{HIB}, 66 XOSC0 (in), 67 XOSC1 (out), 70 ~{RST}, 88 OSC0 (in), 89 OSC1 (out)

## TMP100NA/3K_SOT23-6
designator U?
pins: 1 SCL (in), 2 GND (power), 3 ADD1 (in), 4 V+ (power), 5 ADD0 (in), 6 SDA (io)

## TPD2E001DRLR_SOT-5
designator U?
pins: 1 VCC (power), 2 NC, 3 IO1 (out), 4 GND, 5 IO2 (out)

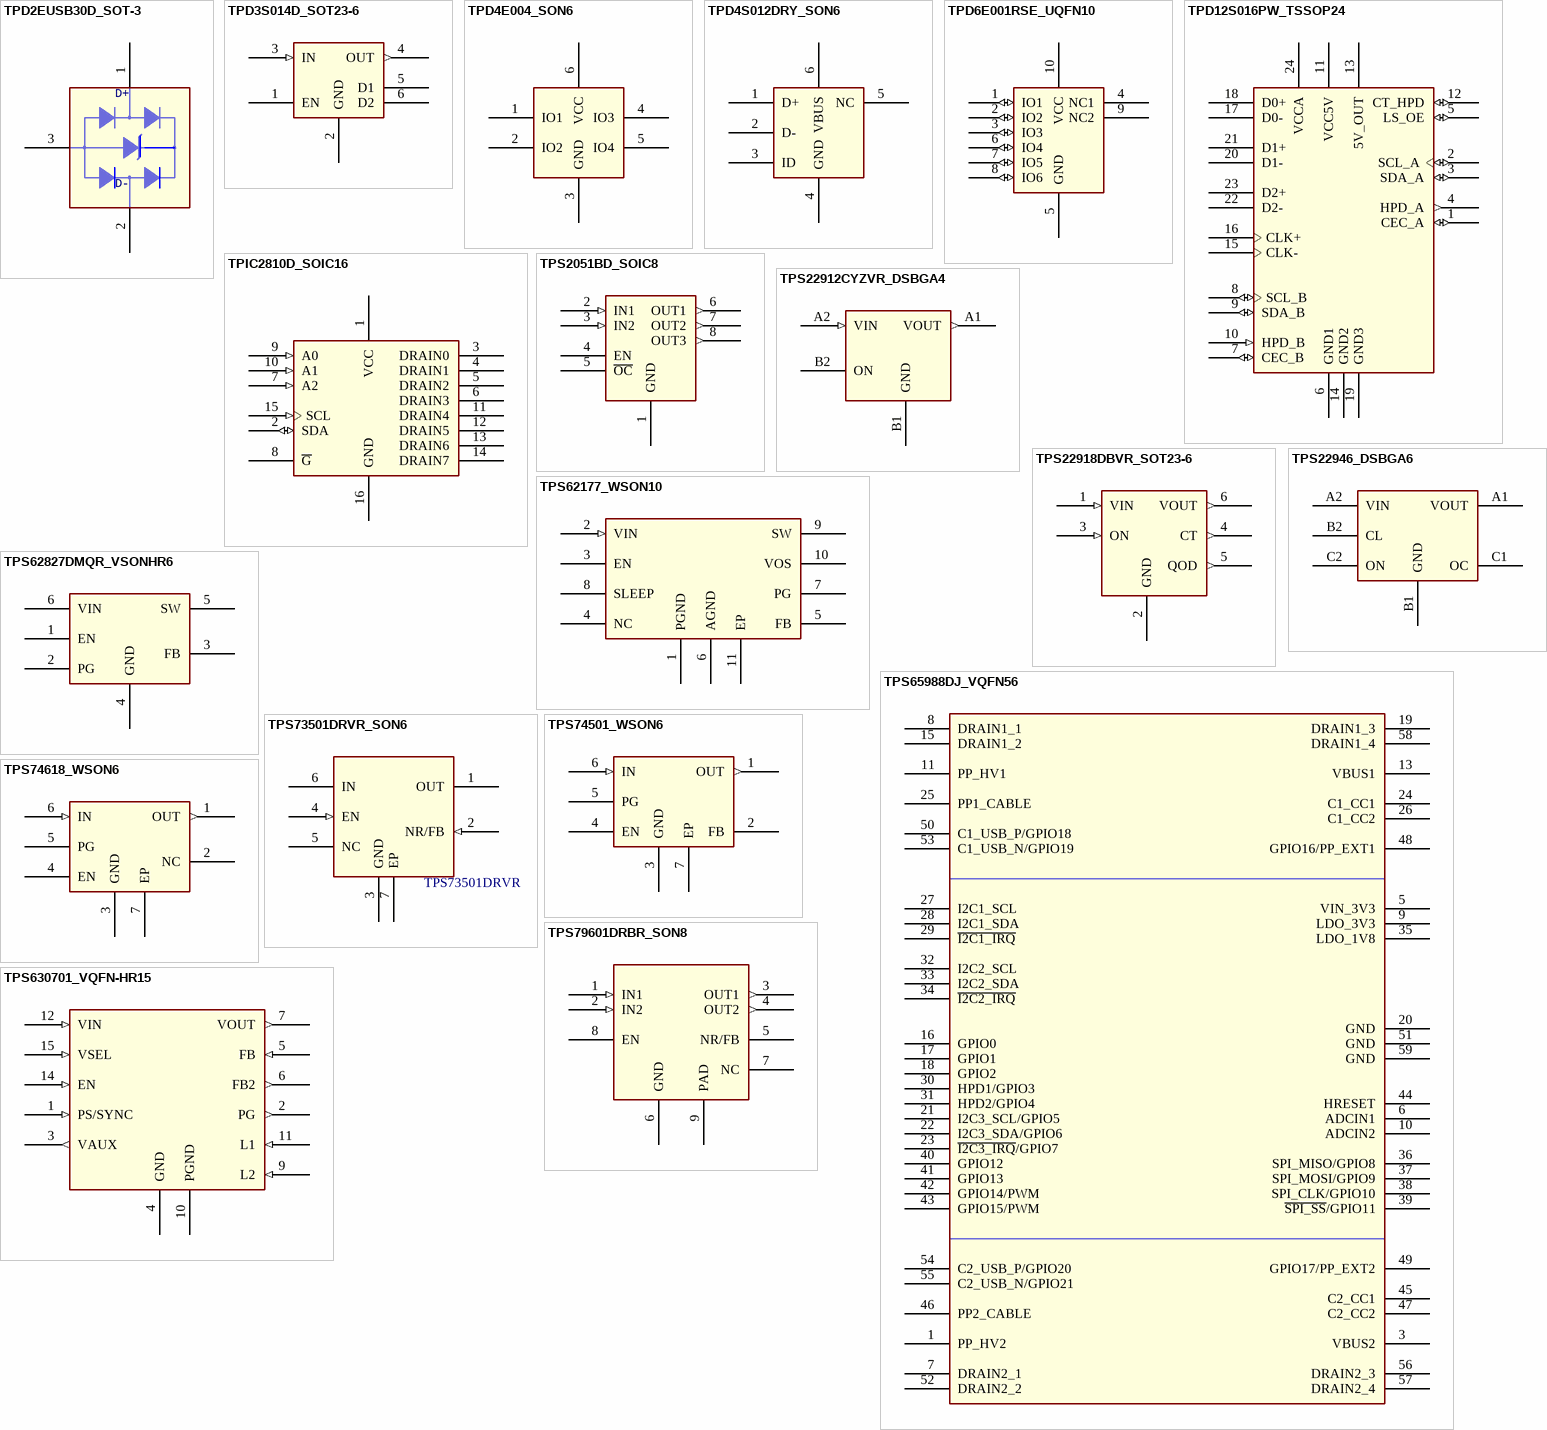
[diagram p10: symbols TPD2EUSB30D_SOT-3 to TPS630701_VQFN-HR15]

## TPD2EUSB30D_SOT-3
designator D?
pins: 1 D+, 2 D-, 3 GND (power)

## TPD3S014D_SOT23-6
designator U?
pins: 1 EN, 2 GND (power), 3 IN (in), 4 OUT (out), 5 D1, 6 D2

## TPD4E004_SON6
designator U?
pins: 1 IO1, 2 IO2, 3 GND (power), 4 IO3, 5 IO4, 6 VCC (power)

## TPD4S012DRY_SON6
designator U?
pins: 1 D+, 2 D-, 3 ID, 4 GND (power), 5 NC, 6 VBUS (power)

## TPD6E001RSE_UQFN10
designator U?
pins: 1 IO1 (io), 2 IO2 (io), 3 IO3 (io), 4 NC1, 5 GND (power), 6 IO4 (io), 7 IO5 (io), 8 IO6 (io), 9 NC2, 10 VCC (power)

## TPD12S016PW_TSSOP24
designator U?
Manufacturer: Texas Instruments; P/N: TPD12S015; TN: 111-1002513; OriginalSymbolOrigin: (0,0)
pins: 1 CEC_A (io), 2 SCL_A (io), 3 SDA_A (io), 4 HPD_A (out), 5 LS_OE (io), 6 GND1 (power), 7 CEC_B (io), 8 SCL_B (io), 9 SDA_B (io), 10 HPD_B (in), 11 VCC5V (power), 12 CT_HPD (io), 13 5V_OUT (power), 14 GND2 (power), 15 CLK-, 16 CLK+, 17 D0-, 18 D0+, 19 GND3 (power), 20 D1-, 21 D1+, 22 D2-, 23 D2+, 24 VCCA (power)

## TPIC2810D_SOIC16
designator U?
pins: 1 VCC (power), 2 SDA (io), 3 DRAIN0, 4 DRAIN1, 5 DRAIN2, 6 DRAIN3, 7 A2 (in), 8 ~{G}, 9 A0 (in), 10 A1 (in), 11 DRAIN4, 12 DRAIN5, 13 DRAIN6, 14 DRAIN7, 15 SCL (in), 16 GND (power)

## TPS2051BD_SOIC8
designator U?
pins: 1 GND (power), 2 IN1 (in), 3 IN2 (in), 4 EN, 5 ~{OC}, 6 OUT1 (out), 7 OUT2 (out), 8 OUT3 (out)

## TPS22912CYZVR_DSBGA4
designator U?
pins: A1 VOUT (out), A2 VIN (in), B1 GND (power), B2 ON

## TPS22918DBVR_SOT23-6
designator U?
pins: 1 VIN (in), 2 GND (power), 3 ON (in), 4 CT (out), 5 QOD (out), 6 VOUT (out)

## TPS22946_DSBGA6
designator U?
pins: A1 VOUT, A2 VIN, B1 GND (power), B2 CL, C1 OC, C2 ON

## TPS62177_WSON10
designator U?
pins: 1 PGND (power), 2 VIN (in), 3 EN, 4 NC, 5 FB, 6 AGND (power), 7 PG, 8 SLEEP, 9 SW, 10 VOS, 11 EP (power)

## TPS62827DMQR_VSONHR6
designator U?
pins: 1 EN, 2 PG, 3 FB, 4 GND (power), 5 SW, 6 VIN

## TPS65988DJ_VQFN56
designator U?
pins: 1 PP_HV2 (power), 3 VBUS2 (power), 5 VIN_3V3 (power), 6 ADCIN1, 7 DRAIN2_1, 8 DRAIN1_1, 9 LDO_3V3 (power), 10 ADCIN2, 11 PP_HV1 (power), 13 VBUS1 (power), 15 DRAIN1_2, 16 GPIO0, 17 GPIO1, 18 GPIO2, 19 DRAIN1_3, 20 GND (power), 21 I2C3_SCL/GPIO5, 22 I2C3_SDA/GPIO6, 23 ~{I2C3_IRQ}/GPIO7, 24 C1_CC1, 25 PP1_CABLE (power), 26 C1_CC2, 27 I2C1_SCL, 28 I2C1_SDA, 29 ~{I2C1_IRQ}, 30 HPD1/GPIO3, 31 HPD2/GPIO4, 32 I2C2_SCL, 33 I2C2_SDA, 34 ~{I2C2_IRQ}, 35 LDO_1V8 (power), 36 SPI_MISO/GPIO8, 37 SPI_MOSI/GPIO9, 38 SPI_CLK/GPIO10, 39 ~{SPI_SS}/GPIO11, 40 GPIO12, 41 GPIO13, 42 GPIO14/PWM, 43 GPIO15/PWM, 44 HRESET, 45 C2_CC1 (power), 46 PP2_CABLE (power), 47 C2_CC2 (power), 48 GPIO16/PP_EXT1, 49 GPIO17/PP_EXT2, 50 C1_USB_P/GPIO18, 51 GND (power), 52 DRAIN2_2, 53 C1_USB_N/GPIO19, 54 C2_USB_P/GPIO20, 55 C2_USB_N/GPIO21, 56 DRAIN2_3, 57 DRAIN2_4, 58 DRAIN1_4, 59 GND (power)

## TPS73501DRVR_SON6
designator U?, comment TPS73501DRVR
pins: 1 OUT (power), 2 NR/FB (in), 3 GND (power), 4 EN (in), 5 NC, 6 IN (power), 7 EP (power)

## TPS74501_WSON6
designator U?
pins: 1 OUT (out), 2 FB, 3 GND (power), 4 EN, 5 PG, 6 IN (in), 7 EP (power)

## TPS74618_WSON6
designator U?
pins: 1 OUT (out), 2 NC, 3 GND (power), 4 EN, 5 PG, 6 IN (in), 7 EP (power)

## TPS79601DRBR_SON8
designator U?
pins: 1 IN1 (in), 2 IN2 (in), 3 OUT1 (out), 4 OUT2 (out), 5 NR/FB, 6 GND (power), 7 NC, 8 EN, 9 PAD (power)

## TPS630701_VQFN-HR15
designator U?
pins: 1 PS/SYNC (in), 2 PG (out), 3 VAUX (out), 4 GND (power), 5 FB (in), 6 FB2 (out), 7 VOUT (out), 9 L2 (in), 10 PGND (power), 11 L1 (in), 12 VIN (in), 14 EN (in), 15 VSEL (in)

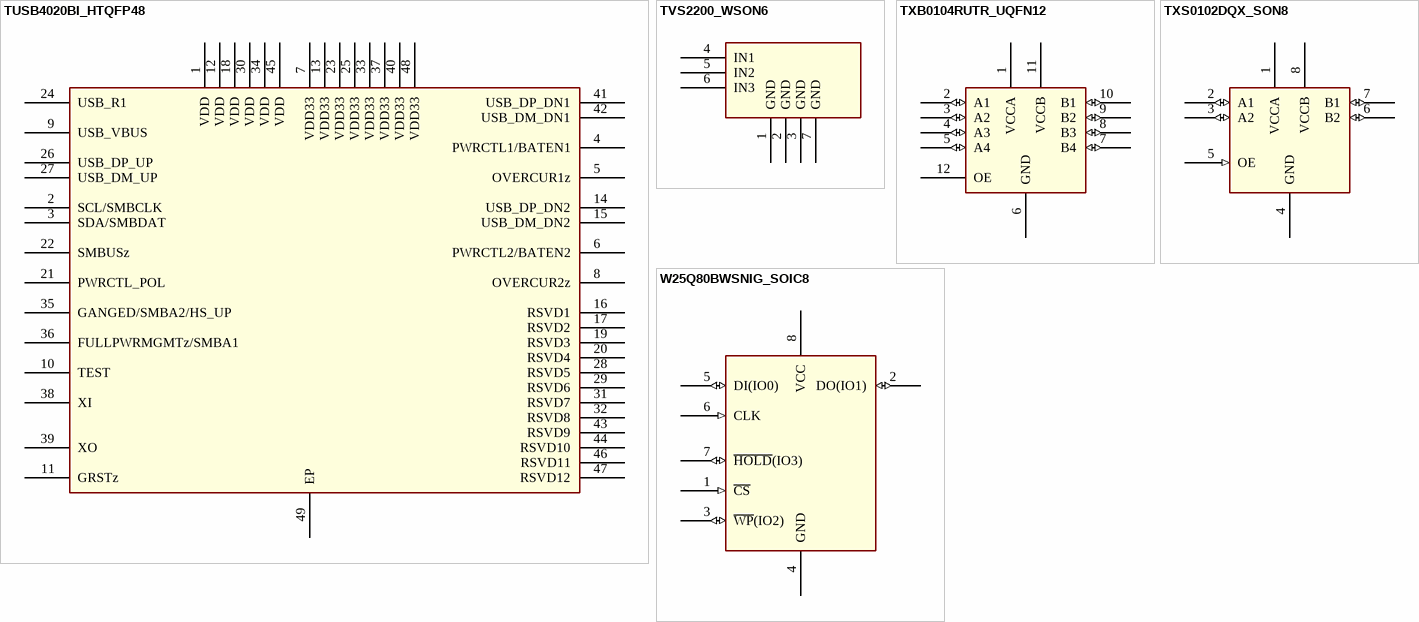
[diagram p11: symbols TUSB4020BI_HTQFP48 to W25Q80BWSNIG_SOIC8]

## TUSB4020BI_HTQFP48
designator U?
pins: 1 VDD (power), 2 SCL/SMBCLK, 3 SDA/SMBDAT, 4 PWRCTL1/BATEN1, 5 OVERCUR1z, 6 PWRCTL2/BATEN2, 7 VDD33 (power), 8 OVERCUR2z, 9 USB_VBUS, 10 TEST, 11 GRSTz, 12 VDD (power), 13 VDD33 (power), 14 USB_DP_DN2, 15 USB_DM_DN2, 16 RSVD1, 17 RSVD2, 18 VDD (power), 19 RSVD3, 20 RSVD4, 21 PWRCTL_POL, 22 SMBUSz, 23 VDD33 (power), 24 USB_R1, 25 VDD33 (power), 26 USB_DP_UP, 27 USB_DM_UP, 28 RSVD5, 29 RSVD6, 30 VDD (power), 31 RSVD7, 32 RSVD8, 33 VDD33 (power), 34 VDD (power), 35 GANGED/SMBA2/HS_UP, 36 FULLPWRMGMTz/SMBA1, 37 VDD33 (power), 38 XI, 39 XO, 40 VDD33 (power), 41 USB_DP_DN1, 42 USB_DM_DN1, 43 RSVD9, 44 RSVD10, 45 VDD (power), 46 RSVD11, 47 RSVD12, 48 VDD33 (power), 49 EP (power)

## TVS2200_WSON6
designator U?
pins: 1 GND (power), 2 GND (power), 3 GND (power), 4 IN1, 5 IN2, 6 IN3, 7 GND (power)

## TXB0104RUTR_UQFN12
designator U?
pins: 1 VCCA (power), 2 A1 (io), 3 A2 (io), 4 A3 (io), 5 A4 (io), 6 GND (power), 7 B4 (io), 8 B3 (io), 9 B2 (io), 10 B1 (io), 11 VCCB (power), 12 OE

## TXS0102DQX_SON8
designator U?
pins: 1 VCCA (power), 2 A1 (io), 3 A2 (io), 4 GND (power), 5 OE (in), 6 B2 (io), 7 B1 (io), 8 VCCB (power)

## W25Q80BWSNIG_SOIC8
designator U?
pins: 1 ~{CS} (in), 2 DO(IO1) (io), 3 ~{WP}(IO2) (io), 4 GND (power), 5 DI(IO0) (io), 6 CLK (in), 7 ~{HOLD}(IO3) (io), 8 VCC (power)